# Altium schematic symbol library wr_switch.SCHLIB: 234 symbols (part 2 of 4)
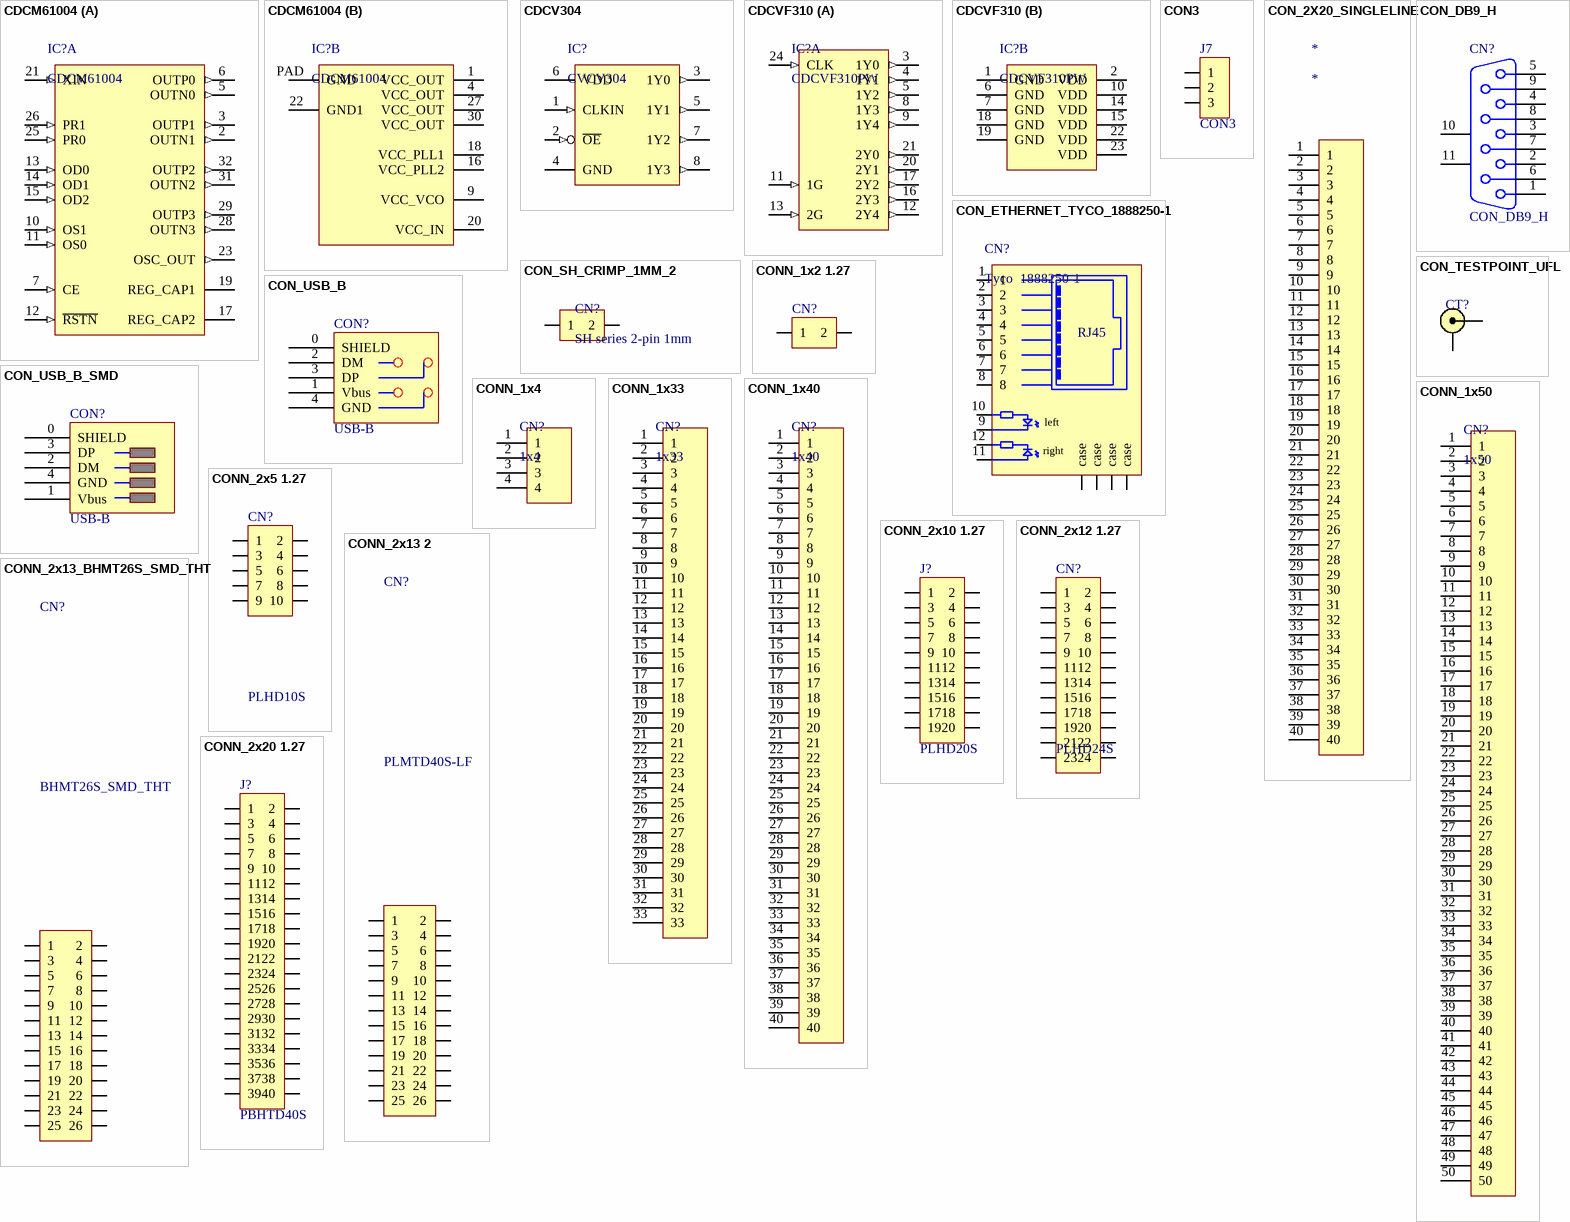
[diagram p27: symbols CDCM61004 to CONN_2x20 1.27]

## CONN_1x50
designator CN?, comment 1x50
pins: 1, 2, 3, 4, 5, 6, 7, 8, 9, 10, 11, 12, 13, 14, 15, 16, 17, 18, 19, 20, 21, 22, 23, 24, 25, 26, 27, 28, 29, 30, 31, 32, 33, 34, 35, 36, 37, 38, 39, 40, 41, 42, 43, 44, 45, 46, 47, 48, 49, 50

## CONN_2x5 1.27
designator CN?, comment PLHD10S
1.27 mm dual row goldpin; RefId: PBHTD10SPP; Value: PBHTD10SPP; Supplier: Maritex
footprint PLHTD10S-GC (SMT 1.27 mm dual goldpin)
pins: 1, 2, 3, 4, 5, 6, 7, 8, 9, 10
2 alternate drawings of the same symbol

## CONN_2x10 1.27
designator J?, comment PLHD20S
1.27 mm dual row goldpin; RefId: PBHTD20SPP; Value: PBHTD20SPP; Supplier: Maritex
footprint PLHD20S (1.27mm dual row pin grid)
footprint PLHTD20S-GC (SMT 1.27 mm dual goldpin)
pins: 1, 2, 3, 4, 5, 6, 7, 8, 9, 10, 11, 12, 13, 14, 15, 16, 17, 18, 19, 20
2 alternate drawings of the same symbol

## CONN_2x12 1.27
designator CN?, comment PLHD24S
1.27 mm dual row goldpin; RefId: PBHTD20SPP; Value: PBHTD20SPP; Supplier: Maritex
footprint PLHD20S (1.27mm dual row pin grid)
footprint PLHTD24S-GC (Footprint not found)
pins: 1, 2, 3, 4, 5, 6, 7, 8, 9, 10, 11, 12, 13, 14, 15, 16, 17, 18, 19, 20, 21, 22, 23, 24
2 alternate drawings of the same symbol

## CONN_2x13 2
designator CN?, comment PLMTD40S-LF
1.27 mm dual row goldpin; Supplier: Maritex; RefId: PLMTD40S-LF; Value: PLMTD40S-LF
footprint PLHD20S (1.27mm dual row pin grid)
footprint CONN_HDR_SMD_2mm_2x13
pins: 1, 2, 3, 4, 5, 6, 7, 8, 9, 10, 11, 12, 13, 14, 15, 16, 17, 18, 19, 20, 21, 22, 23, 24, 25, 26
2 alternate drawings of the same symbol

## CONN_2x13_BHMT26S_SMD_THT
designator CN?, comment BHMT26S_SMD_THT
1.27 mm dual row goldpin; RefId: PLMTD40S-LF; Value: PLMTD40S-LF; Supplier: Maritex
footprint PLHD20S (1.27mm dual row pin grid)
footprint CONN_HDR_2mm_2x13 - SMD_THT
pins: 1, 1a 1, 2, 2a 2, 3, 3a 3, 4, 4a 4, 5, 5a 5, 6, 6a 6, 7, 7a 7, 8, 8a 8, 9, 9a 9, 10, 10a 10, 11, 11a 11, 12, 12a 12, 13, 13a 13, 14, 14a 14, 15, 15a 15, 16, 16a 16, 17, 17a 17, 18, 18a 18, 19, 19a 19, 20, 20a 20, 21, 21a 21, 22, 22a 22, 23, 23a 23, 24, 24a 24, 25, 25a 25, 26, 26a 26
2 alternate drawings of the same symbol

## CONN_2x20 1.27
designator J?, comment PBHTD40S
1.27 mm dual row goldpin (Maritex)
footprint PLHD40S (1.27mm dual row pin grid)
footprint PLHTD40S (SMT 1.27 mm dual goldpin)
pins: 1, 2, 3, 4, 5, 6, 7, 8, 9, 10, 11, 12, 13, 14, 15, 16, 17, 18, 19, 20, 21, 22, 23, 24, 25, 26, 27, 28, 29, 30, 31, 32, 33, 34, 35, 36, 37, 38, 39, 40
2 alternate drawings of the same symbol

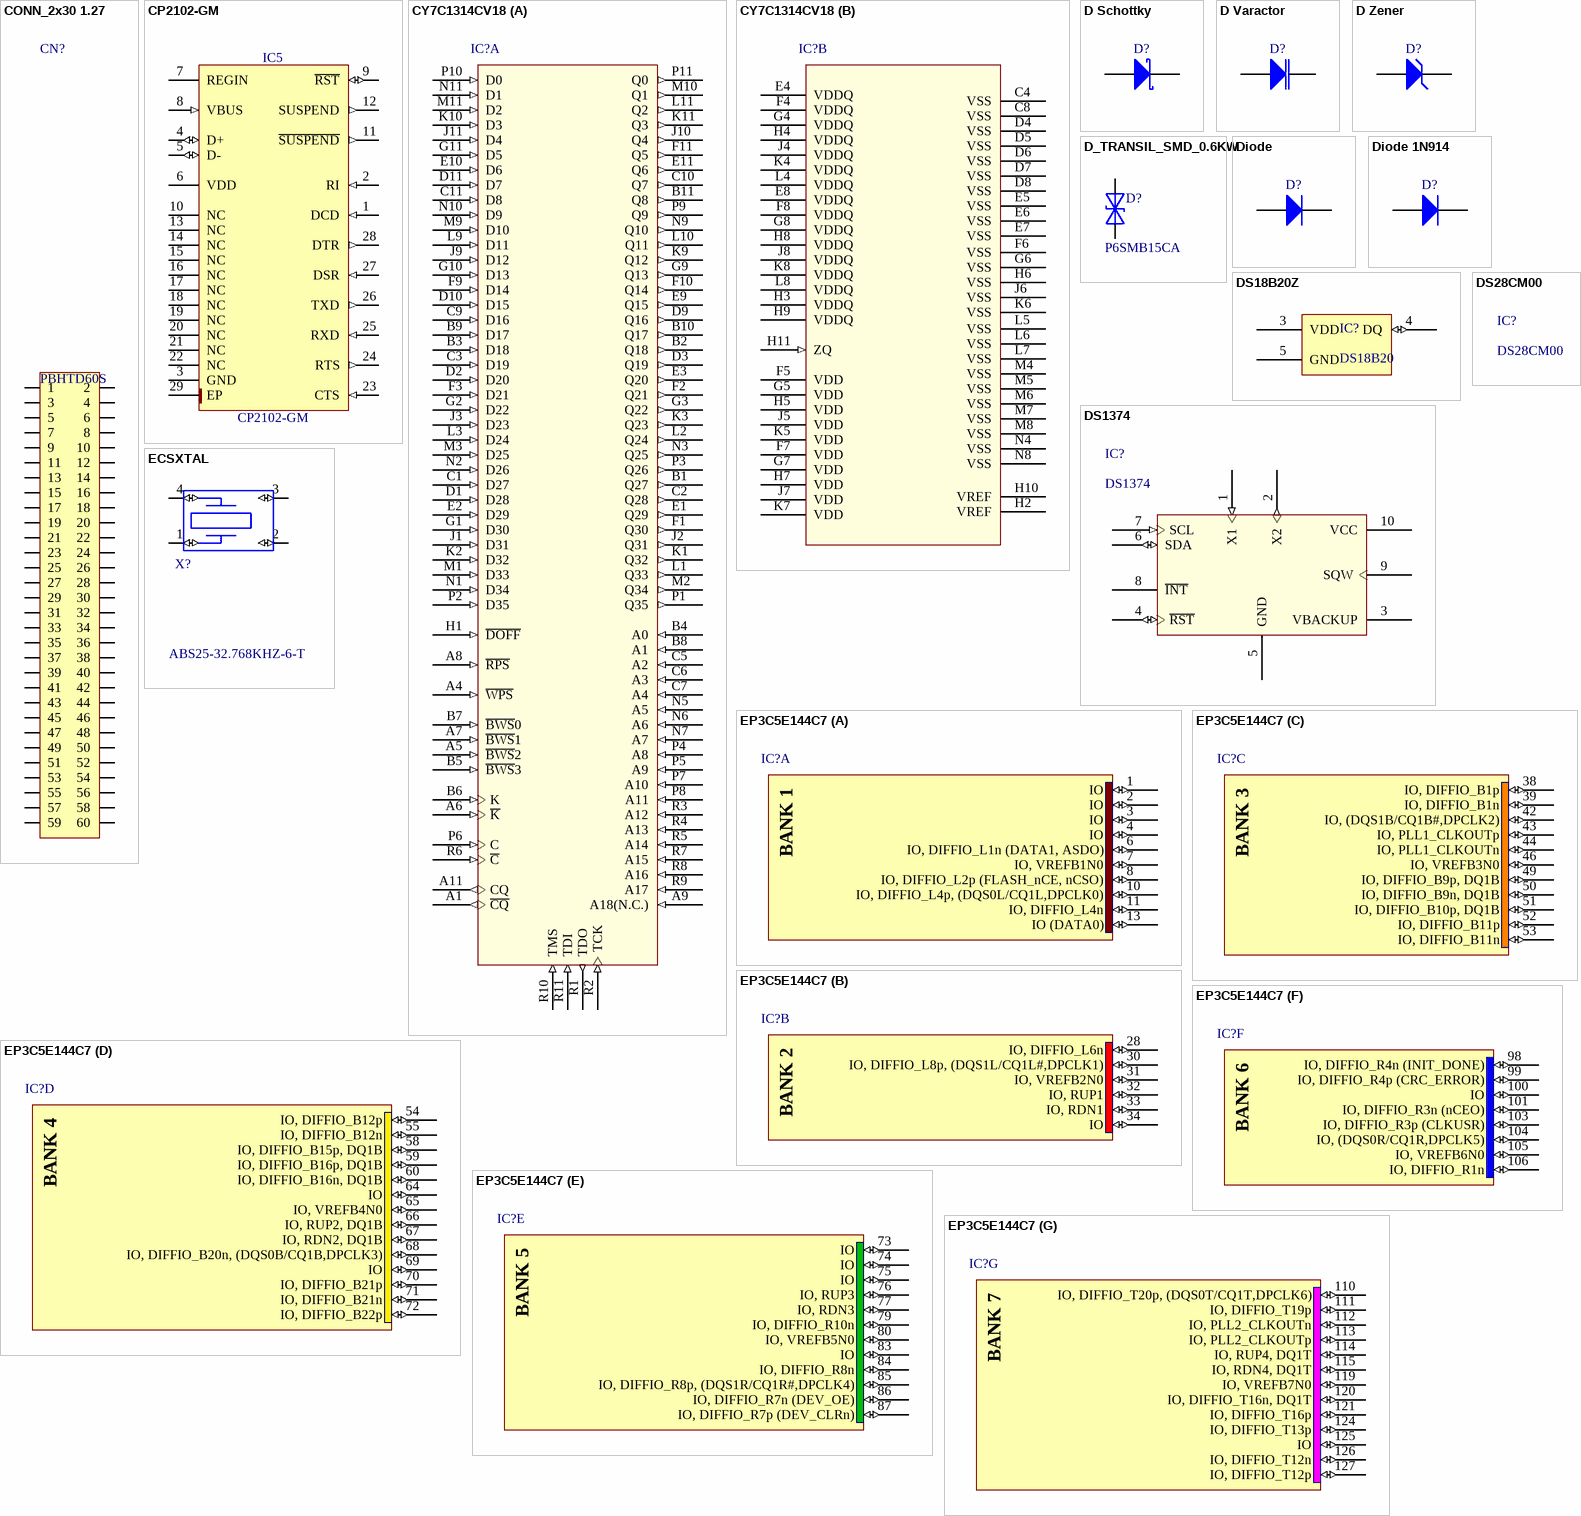
[diagram p7: symbols CONN_2x30 1.27 to EP3C5E144C7]

## CONN_2x30 1.27
designator CN?, comment PBHTD60S
1.27 mm dual row goldpin (Maritex)
footprint PLHD40S (1.27mm dual row pin grid)
footprint PLHTD40S (SMT 1.27 mm dual goldpin)
pins: 1, 2, 3, 4, 5, 6, 7, 8, 9, 10, 11, 12, 13, 14, 15, 16, 17, 18, 19, 20, 21, 22, 23, 24, 25, 26, 27, 28, 29, 30, 31, 32, 33, 34, 35, 36, 37, 38, 39, 40, 41, 42, 43, 44, 45, 46, 47, 48, 49, 50, 51, 52, 53, 54, 55, 56, 57, 58, 59, 60
2 alternate drawings of the same symbol

## CP2102-GM
designator IC5
Single-Chip USB to UART Bridge; Manufacturer: SILICON LABS; Table: Analog & Interface; Part Number: CP2102-GM; Component Kind: Standard; Component Type: Standard; Device: CP2102-GM; Footprint: QFN50P500X500X100-29N-S335; PackageDescription: QFN, 0.50mm Pitch, Square; 28 pin, 5.00mm L X 5.00mm W X 1.00mm H body (w/thermal tab 3.35 X 3.35mm),  IPC Medium Density; Part Description: Single-Chip USB to UART Bridge; Manufacturer Part Number: CP2102-GM; Pin Count: 29; Case: QFN28; Mounted: Yes; Socket: No; SMD: Yes; ComponentHeight: 1.0mm; Author: CERN DEM JLC; HelpURL: \\cern.ch\dfs\Applications\Altium\Datasheets\CP2102-GM.pdf; CreateDate: 3/3/2011; LatestRevisionDate: 3/3/2011
footprint QFN50P500X500X100-29N-S335
pins: 1 DCD (in), 2 RI (in), 3 GND (power), 4 D+ (io), 5 D- (io), 6 VDD (power), 7 REGIN (power), 8 VBUS (in), 9 ~{RST} (io), 10 NC, 11 ~{SUSPEND} (out), 12 SUSPEND (out), 13 NC, 14 NC, 15 NC, 16 NC, 17 NC, 18 NC, 19 NC, 20 NC, 21 NC, 22 NC, 23 CTS (in), 24 RTS (out), 25 RXD (in), 26 TXD (out), 27 DSR (in), 28 DTR (out), 29 EP (power)

## CY7C1314CV18
designator IC?, comment CY7C1314CV18-250BZC  (value not drawn)
18-Mbit (512Kx36) QDRII SRAM 2-Word Burst Architecture; Value: CY7C1314CV18-250BZC; Distributor1 PN: CY7C1314CV18-250BZC -ND; Distributor1: Digikey
footprint BGA165C100P11X15_1300X1500X140 (BGA, 1.00mm pitch,rect.;165 pin, 11 columns X 15 rows, 13.00mm X 15.00mm X 1.40mm H)
part A pins: A1 ~{CQ} (out), A4 ~{WPS} (in), A5 ~{BWS}2 (in), A6 ~{K} (in), A7 ~{BWS}1 (in), A8 ~{RPS} (in), A9 A18(N.C.) (in), A11 CQ (out), B1 Q27 (out), B2 Q18 (out), B3 D18 (in), B4 A0 (in), B5 ~{BWS}3 (in), B6 K (in), B7 ~{BWS}0 (in), B8 A1 (in), B9 D17 (in), B10 Q17 (out), B11 Q8 (out), C1 D27 (in), C2 Q28 (out), C3 D19 (in), C5 A2 (in), C6 A3 (in), C7 A4 (in), C9 D16 (in), C10 Q7 (out), C11 D8 (in), D1 D28 (in), D2 D20 (in), D3 Q19 (out), D9 Q16 (out), D10 D15 (in), D11 D7 (in), E1 Q29 (out), E2 D29 (in), E3 Q20 (out), E9 Q15 (out), E10 D6 (in), E11 Q6 (out), F1 Q30 (out), F2 Q21 (out), F3 D21 (in), F9 D14 (in), F10 Q14 (out), F11 Q5 (out), G1 D30 (in), G2 D22 (in), G3 Q22 (out), G9 Q13 (out), G10 D13 (in), G11 D5 (in), H1 ~{DOFF} (in), J1 D31 (in), J2 Q31 (out), J3 D23 (in), J9 D12 (in), J10 Q4 (out), J11 D4 (in), K1 Q32 (out), K2 D32 (in), K3 Q23 (out), K9 Q12 (out), K10 D3 (in), K11 Q3 (out), L1 Q33 (out), L2 Q24 (out), L3 D24 (in), L9 D11 (in), L10 Q11 (out), L11 Q2 (out), M1 D33 (in), M2 Q34 (out), M3 D25 (in), M9 D10 (in), M10 Q1 (out), M11 D2 (in), N1 D34 (in), N2 D26 (in), N3 Q25 (out), N5 A5 (in), N6 A6 (in), N7 A7 (in), N9 Q10 (out), N10 D9 (in), N11 D1 (in), P1 Q35 (out), P2 D35 (in), P3 Q26 (out), P4 A8 (in), P5 A9 (in), P6 C (in), P7 A10 (in), P8 A11 (in), P9 Q9 (out), P10 D0 (in), P11 Q0 (out), R1 TDO (out), R2 TCK (in), R3 A12 (in), R4 A13 (in), R5 A14 (in), R6 ~{C} (in), R7 A15 (in), R8 A16 (in), R9 A17 (in), R10 TMS (in), R11 TDI (in)
part B pins: C4 VSS (power), C8 VSS (power), D4 VSS (power), D5 VSS (power), D6 VSS (power), D7 VSS (power), D8 VSS (power), E4 VDDQ (power), E5 VSS (power), E6 VSS (power), E7 VSS (power), E8 VDDQ (power), F4 VDDQ (power), F5 VDD (power), F6 VSS (power), F7 VDD (power), F8 VDDQ (power), G4 VDDQ (power), G5 VDD (power), G6 VSS (power), G7 VDD (power), G8 VDDQ (power), H2 VREF (power), H3 VDDQ (power), H4 VDDQ (power), H5 VDD (power), H6 VSS (power), H7 VDD (power), H8 VDDQ (power), H9 VDDQ (power), H10 VREF (power), H11 ZQ (in), J4 VDDQ (power), J5 VDD (power), J6 VSS (power), J7 VDD (power), J8 VDDQ (power), K4 VDDQ (power), K5 VDD (power), K6 VSS (power), K7 VDD (power), K8 VDDQ (power), L4 VDDQ (power), L5 VSS (power), L6 VSS (power), L7 VSS (power), L8 VDDQ (power), M4 VSS (power), M5 VSS (power), M6 VSS (power), M7 VSS (power), M8 VSS (power), N4 VSS (power), N8 VSS (power)

## D Schottky
designator D?
Schottky Diode; Published: 8-Jun-2000; LatestRevisionDate: 17-Jul-2002; LatestRevisionNote: Re-released for DXP Platform.; PackageReference: SMB; Publisher: Altium Limited; Code_JEDEC: DO-214-AA
footprint SMB (DO-214-AA/SMB; 2 C-Bend Leads; Body 5.3 x 3.6 mm, inc. leads (LxW))
simulation model SKYDIODE (Diode)
signal-integrity model D Schottky
pins: 1 A, 2 K

## D Varactor
designator D?
Variable Capacitance Diode; Note: Pin 2 is not connected and not drawn.; Published: 8-Jun-2000; LatestRevisionDate: 17-Jul-2002; LatestRevisionNote: Re-released for DXP Platform.; DatasheetDocument: Jan-1998; PackageReference: SOT23A; Publisher: Altium Limited; Code_JEDEC: SOT23; ComponentLink1Description: Manufacturer Link; ComponentLink1URL: http://www.zetex.com/
footprint SOT23A (SOT-23; 3 Leads; Body 3.0 x 2.5 mm, inc. leads (LxW max))
simulation model BBY31 (Diode)
signal-integrity model D Varactor
pins: 1 K, 3 A

## D Zener
designator D?
Zener Diode; Published: 8-Jun-2000; LatestRevisionDate: 17-Jul-2002; LatestRevisionNote: Re-released for DXP Platform.; PackageReference: DIODE-0.7; Publisher: Altium Limited
footprint DIODE-0.7 (Zener Diode; 2 Leads)
simulation model ZENER (Diode)
signal-integrity model D Zener
pins: 1 A, 2 K

## D_TRANSIL_SMD_0.6KW
designator D?, comment P6SMB15CA
transil 600W; RefId: 1390860; Supplier: Farnell; Value: P6SMB15CA
footprint DO-214AA/SMB (diode (Maritex))
pins: A, K

## Diode
designator D?
Default Diode; Published: 8-Jun-2000; LatestRevisionDate: 17-Jul-2002; LatestRevisionNote: Re-released for DXP Platform.; PackageDocument: Sep-1996; PackageReference: SMC; Publisher: Altium Limited; Code_JEDEC: DO-214-AB
footprint SMC (DO-214-AB/SMC; 2 C-Bend Leads; Body 7.9 x 5.9 mm, inc. leads (LxW))
simulation model DIODE (Diode)
signal-integrity model Diode
pins: 1 A, 2 K

## Diode 1N914
designator D?
High Conductance Fast Diode; Published: 8-Jun-2000; LatestRevisionDate: 17-Jul-2002; LatestRevisionNote: Re-released for DXP Platform.; DatasheetDocument: 1997; PackageReference: DO-35; Publisher: Altium Limited; Code_JEDEC: DO-204-AH; ComponentLink1Description: Manufacturer Link; ComponentLink1URL: http://www.fairchildsemi.com/; ComponentLink2Description: Datasheet; ComponentLink2URL: http://www.fairchildsemi.com/ds/1N%2F1N4448.pdf
footprint DO-35 (Diode, Axial; Body 3.8 x 1.9 mm (LxDia. max), Lead Dia. 0.53 mm (max))
simulation model 1N914 (DIODE)
signal-integrity model 1N914
pins: 1 A, 2 K

## DS18B20Z
designator IC?, comment DS18B20
1-wire thermometer/ID chip; Value: DS18B20Z; RefId: 1379772; Supplier: Farnell
footprint SOIC127P600-8AL (SOIC, 8-Leads, Body 4.9x3.9mm, Pitch 1.27mm, IPC High Density)
pins: 3 VDD (power), 4 DQ (io), 5 GND (power)

## DS28CM00
designator IC?

## DS1374
designator IC?
I2C, 32 BIT BINARY COUNTER WATCHDOG RTC
footprint UMAX10
pins: 1 X1 (in), 2 X2 (out), 3 VBACKUP (power), 4 ~{RST} (io), 5 GND (power), 6 SDA (io), 7 SCL (in), 8 ~{INT} (oc), 9 SQW (oc), 10 VCC (power)

## ECSXTAL
designator X?, comment ABS25-32.768KHZ-6-T
Crystal 32.768 Hz 6,0pF SMD; MANF: Abracon Corporation; LEVEL: STD; PKG_TYPE: SOJ-4; MANF_PN: ABS25-32.768KHZ-6-T; VALUE: ABS25-32.768KHZ-6-T; Distributor1: Digikey; Distributor1: 535-10240-1-ND
footprint ABS25 (32.768 kHzFREQUENCY SMD CRYSTAL LOW PROFILE, HEAT RESISTANT PLASTIC PACKAGE)
pins: 1 P1 (io), 2 P2 (io), 3 P3 (io), 4 P4 (io)

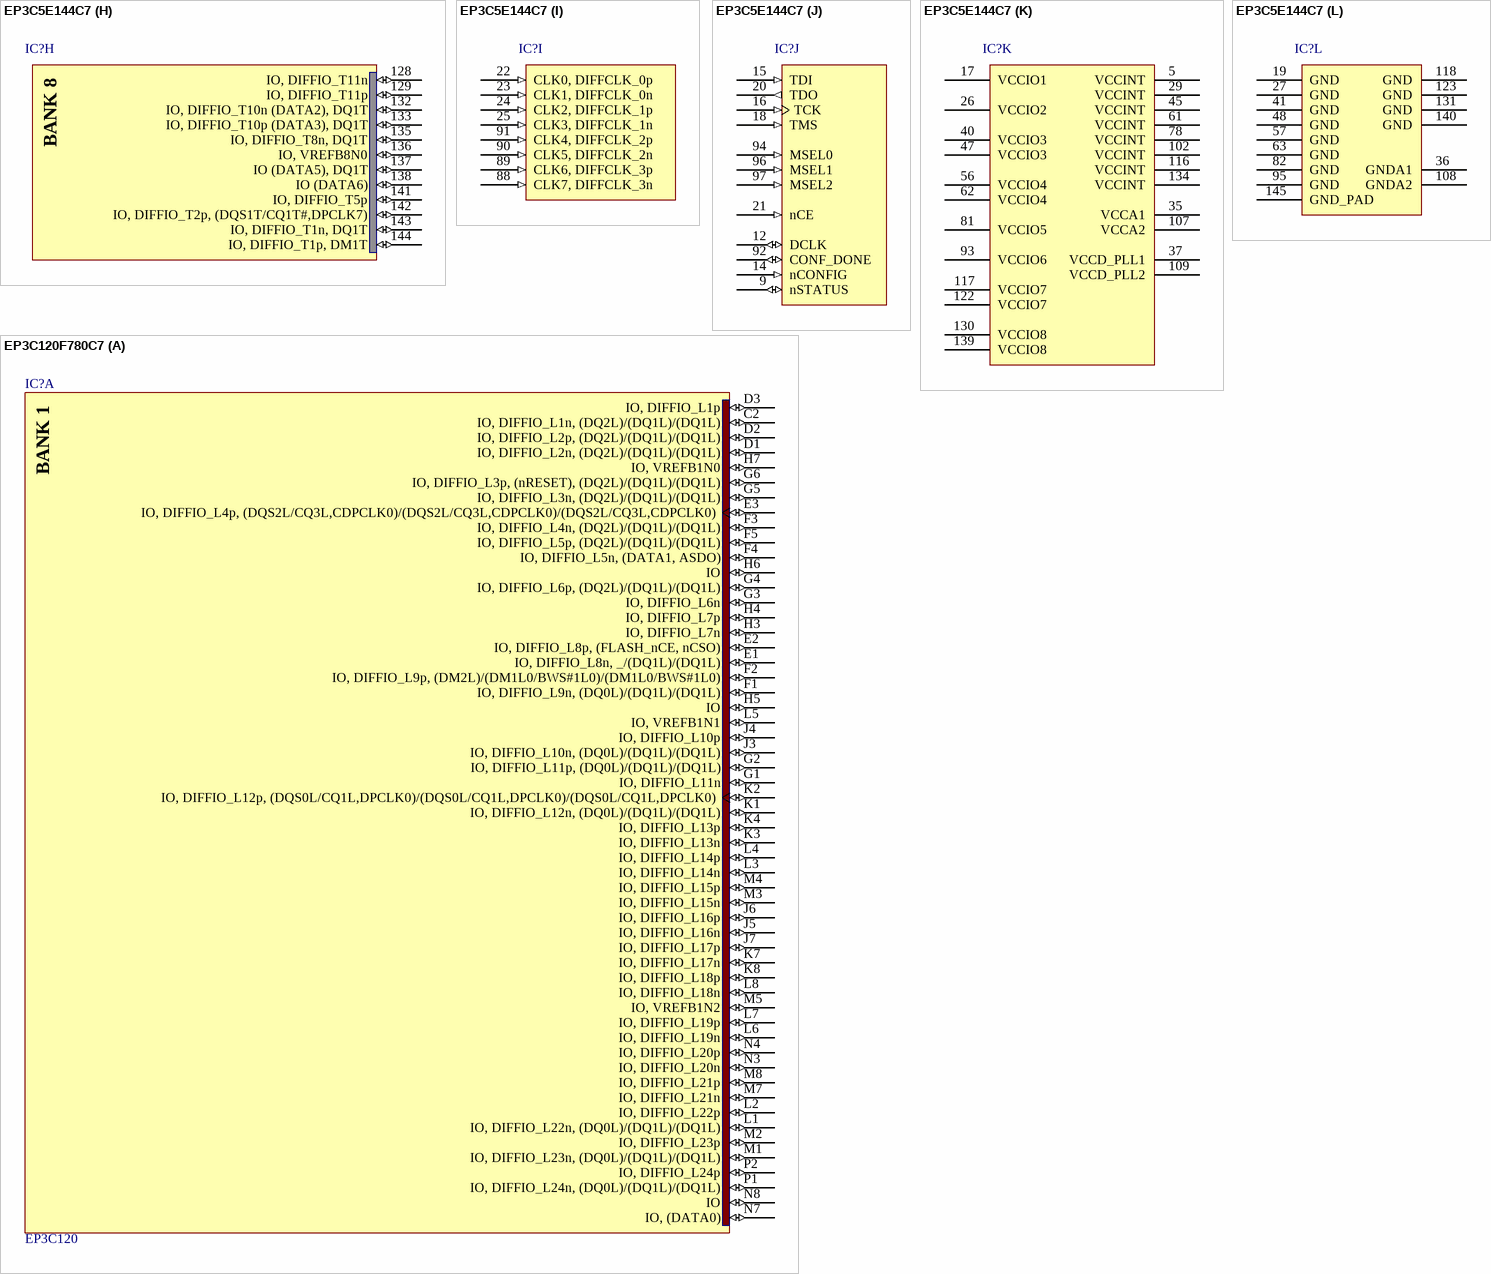
[diagram p8: symbols EP3C5E144C7 to EP3C120F780C7]

## EP3C5E144C7
designator IC?  (value not drawn)
Cyclone III Family FPGA, 94 I/O Pins, 4 PLLs, 144-Pin EQFP, Speed Grade 7, Commercial Grade; Note: Exposed pad at the bottom of this package must be connected to PCB GND.; RefId: 1635055; Published: 14-Mar-2008; DatasheetVersion: ver1.2, Sep-2007; PackageVersion: ver14.8, Oct-2007; PackageReference: EQFP144; Publisher: Altium Limited; PackageDescription: 144-Pin Plastic Enhanced Quad Flat Pack (EQFP144) - Wire Bond; Code_JEDEC: MS-026-BFB; ComponentLink1Description: Manufacturer Link; ComponentLink1URL: http://www.altera.com/; ComponentLink2Description: Handbook (7.86MB); ComponentLink2URL: http://www.altera.com/literature/hb/cyc3/cyclone3_handbook.pdf; ComponentLink3Description: Packaging Specification; ComponentLink3URL: http://www.altera.com/literature/ds/dspkg.pdf; Supplier: Farnell; Value: EP3C5E144C7
footprint EQFP144_N (Thin QFP, 144-Leads, Body 20x20mm, Pitch 0.5mm, IPC Medium Density)
footprint EQFP144_L (Thin QFP, 144-Leads, Body 20x20mm, Pitch 0.5mm, IPC High Density)
footprint EQFP144_M (Thin QFP, 144-Leads, Body 20x20mm, Pitch 0.5mm, IPC Low Density)
3D model EP3C5-EQFP144 (144-Pin Plastic Enhanced Quad Flat Pack (EQFP144) - Wire Bond)
signal-integrity model EP3C5_E144 (Cyclone III)
part A pins: 1 IO (io), 2 IO (io), 3 IO (io), 4 IO (io), 6 IO, DIFFIO_L1n (DATA1, ASDO) (io), 7 IO, VREFB1N0 (io), 8 IO, DIFFIO_L2p (FLASH_nCE, nCSO) (io), 10 IO, DIFFIO_L4p, (DQS0L/CQ1L,DPCLK0) (io), 11 IO, DIFFIO_L4n (io), 13 IO (DATA0) (io)
part B pins: 28 IO, DIFFIO_L6n (io), 30 IO, DIFFIO_L8p, (DQS1L/CQ1L#,DPCLK1) (io), 31 IO, VREFB2N0 (io), 32 IO, RUP1 (io), 33 IO, RDN1 (io), 34 IO (io)
part C pins: 38 IO, DIFFIO_B1p (io), 39 IO, DIFFIO_B1n (io), 42 IO, (DQS1B/CQ1B#,DPCLK2) (io), 43 IO, PLL1_CLKOUTp (io), 44 IO, PLL1_CLKOUTn (io), 46 IO, VREFB3N0 (io), 49 IO, DIFFIO_B9p, DQ1B (io), 50 IO, DIFFIO_B9n, DQ1B (io), 51 IO, DIFFIO_B10p, DQ1B (io), 52 IO, DIFFIO_B11p (io), 53 IO, DIFFIO_B11n (io)
part D pins: 54 IO, DIFFIO_B12p (io), 55 IO, DIFFIO_B12n (io), 58 IO, DIFFIO_B15p, DQ1B (io), 59 IO, DIFFIO_B16p, DQ1B (io), 60 IO, DIFFIO_B16n, DQ1B (io), 64 IO (io), 65 IO, VREFB4N0 (io), 66 IO, RUP2, DQ1B (io), 67 IO, RDN2, DQ1B (io), 68 IO, DIFFIO_B20n, (DQS0B/CQ1B,DPCLK3) (io), 69 IO (io), 70 IO, DIFFIO_B21p (io), 71 IO, DIFFIO_B21n (io), 72 IO, DIFFIO_B22p (io)
part E pins: 73 IO (io), 74 IO (io), 75 IO (io), 76 IO, RUP3 (io), 77 IO, RDN3 (io), 79 IO, DIFFIO_R10n (io), 80 IO, VREFB5N0 (io), 83 IO (io), 84 IO, DIFFIO_R8n (io), 85 IO, DIFFIO_R8p, (DQS1R/CQ1R#,DPCLK4) (io), 86 IO, DIFFIO_R7n (DEV_OE) (io), 87 IO, DIFFIO_R7p (DEV_CLRn) (io)
part F pins: 98 IO, DIFFIO_R4n (INIT_DONE) (io), 99 IO, DIFFIO_R4p (CRC_ERROR) (io), 100 IO (io), 101 IO, DIFFIO_R3n (nCEO) (io), 103 IO, DIFFIO_R3p (CLKUSR) (io), 104 IO, (DQS0R/CQ1R,DPCLK5) (io), 105 IO, VREFB6N0 (io), 106 IO, DIFFIO_R1n (io)
part G pins: 110 IO, DIFFIO_T20p, (DQS0T/CQ1T,DPCLK6) (io), 111 IO, DIFFIO_T19p (io), 112 IO, PLL2_CLKOUTn (io), 113 IO, PLL2_CLKOUTp (io), 114 IO, RUP4, DQ1T (io), 115 IO, RDN4, DQ1T (io), 119 IO, VREFB7N0 (io), 120 IO, DIFFIO_T16n, DQ1T (io), 121 IO, DIFFIO_T16p (io), 124 IO, DIFFIO_T13p (io), 125 IO (io), 126 IO, DIFFIO_T12n (io), 127 IO, DIFFIO_T12p (io)
part H pins: 128 IO, DIFFIO_T11n (io), 129 IO, DIFFIO_T11p (io), 132 IO, DIFFIO_T10n (DATA2), DQ1T (io), 133 IO, DIFFIO_T10p (DATA3), DQ1T (io), 135 IO, DIFFIO_T8n, DQ1T (io), 136 IO, VREFB8N0 (io), 137 IO (DATA5), DQ1T (io), 138 IO (DATA6) (io), 141 IO, DIFFIO_T5p (io), 142 IO, DIFFIO_T2p, (DQS1T/CQ1T#,DPCLK7) (io), 143 IO, DIFFIO_T1n, DQ1T (io), 144 IO, DIFFIO_T1p, DM1T (io)
part I pins: 22 CLK0, DIFFCLK_0p (in), 23 CLK1, DIFFCLK_0n (in), 24 CLK2, DIFFCLK_1p (in), 25 CLK3, DIFFCLK_1n (in), 88 CLK7, DIFFCLK_3n (in), 89 CLK6, DIFFCLK_3p (in), 90 CLK5, DIFFCLK_2n (in), 91 CLK4, DIFFCLK_2p (in)
part J pins: 9 nSTATUS (io), 12 DCLK (io), 14 nCONFIG (in), 15 TDI (in), 16 TCK (in), 18 TMS (in), 20 TDO (out), 21 nCE (in), 92 CONF_DONE (io), 94 MSEL0 (in), 96 MSEL1 (in), 97 MSEL2 (in)
part K pins: 5 VCCINT (power), 17 VCCIO1 (power), 26 VCCIO2 (power), 29 VCCINT (power), 35 VCCA1 (power), 37 VCCD_PLL1 (power), 40 VCCIO3 (power), 45 VCCINT (power), 47 VCCIO3 (power), 56 VCCIO4 (power), 61 VCCINT (power), 62 VCCIO4 (power), 78 VCCINT (power), 81 VCCIO5 (power), 93 VCCIO6 (power), 102 VCCINT (power), 107 VCCA2 (power), 109 VCCD_PLL2 (power), 116 VCCINT (power), 117 VCCIO7 (power), 122 VCCIO7 (power), 130 VCCIO8 (power), 134 VCCINT (power), 139 VCCIO8 (power)
part L pins: 19 GND (power), 27 GND (power), 36 GNDA1 (power), 41 GND (power), 48 GND (power), 57 GND (power), 63 GND (power), 82 GND (power), 95 GND (power), 108 GNDA2 (power), 118 GND (power), 123 GND (power), 131 GND (power), 140 GND (power), 145 GND_PAD (power)
part A text: BANK 1
part B text: BANK 2
part C text: BANK 3
part D text: BANK 4
part E text: BANK 5
part F text: BANK 6
part G text: BANK 7
part H text: BANK 8

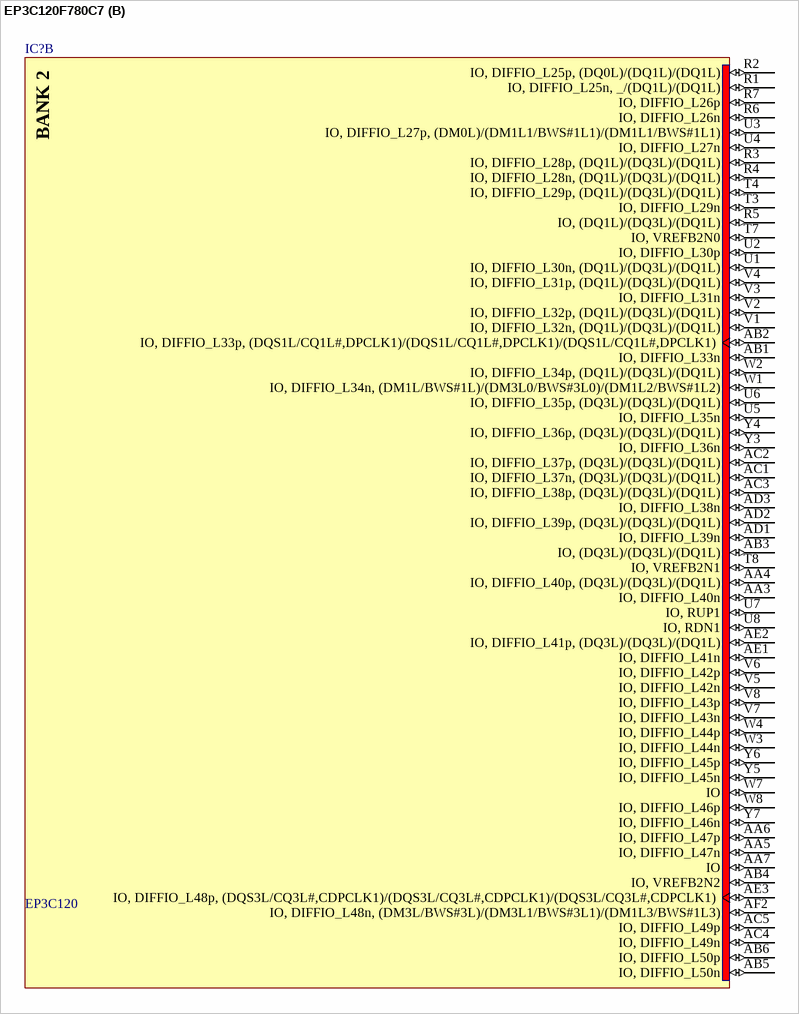
[diagram p9: symbol EP3C120F780C7]

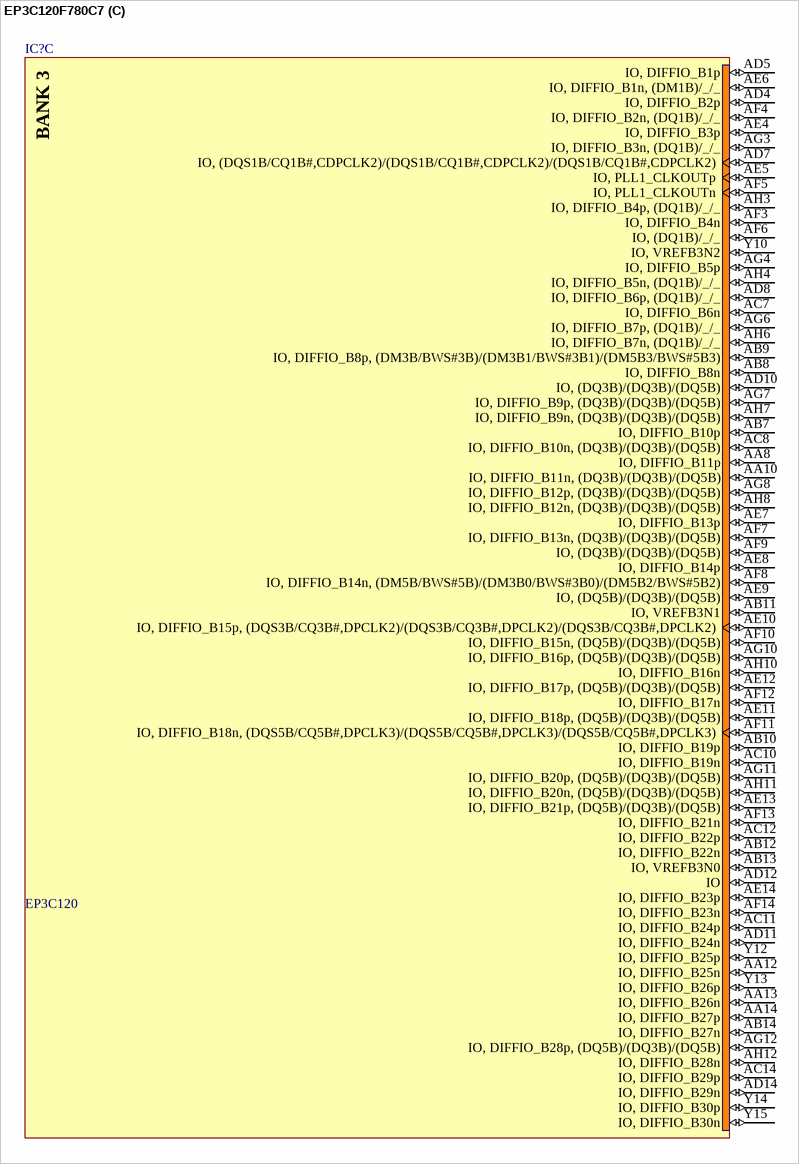
[diagram p10: symbol EP3C120F780C7]

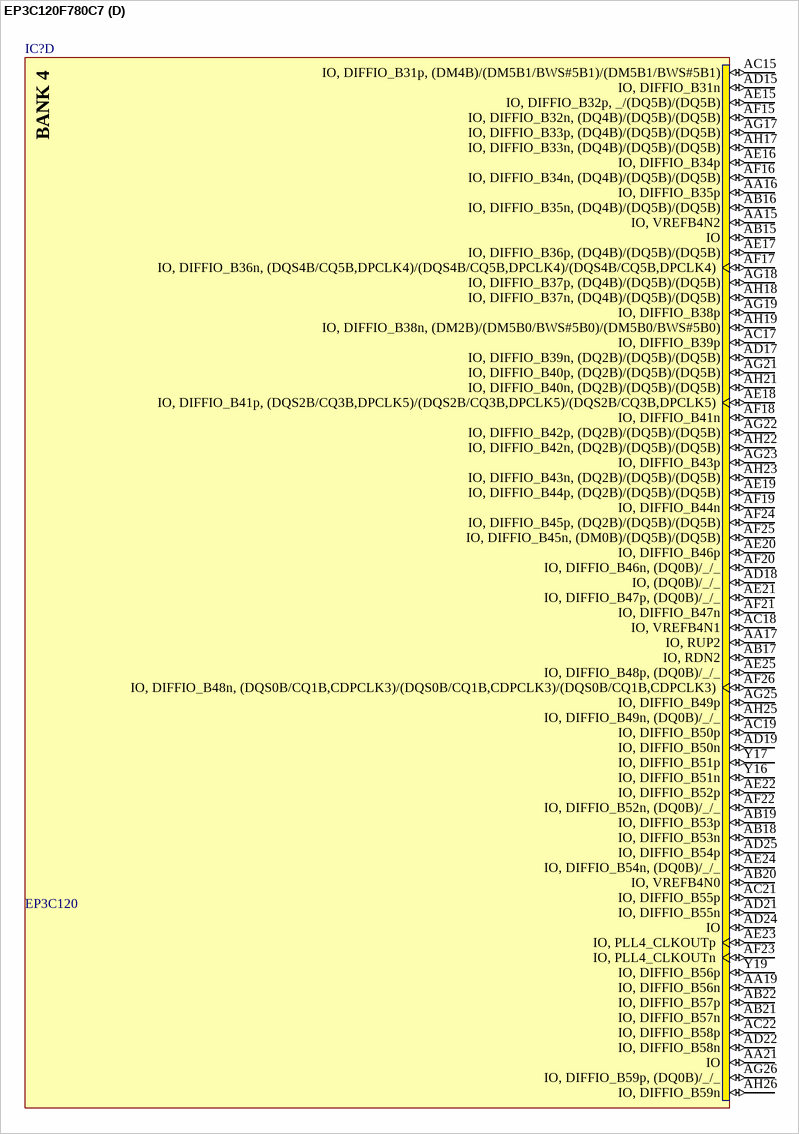
[diagram p11: symbol EP3C120F780C7]

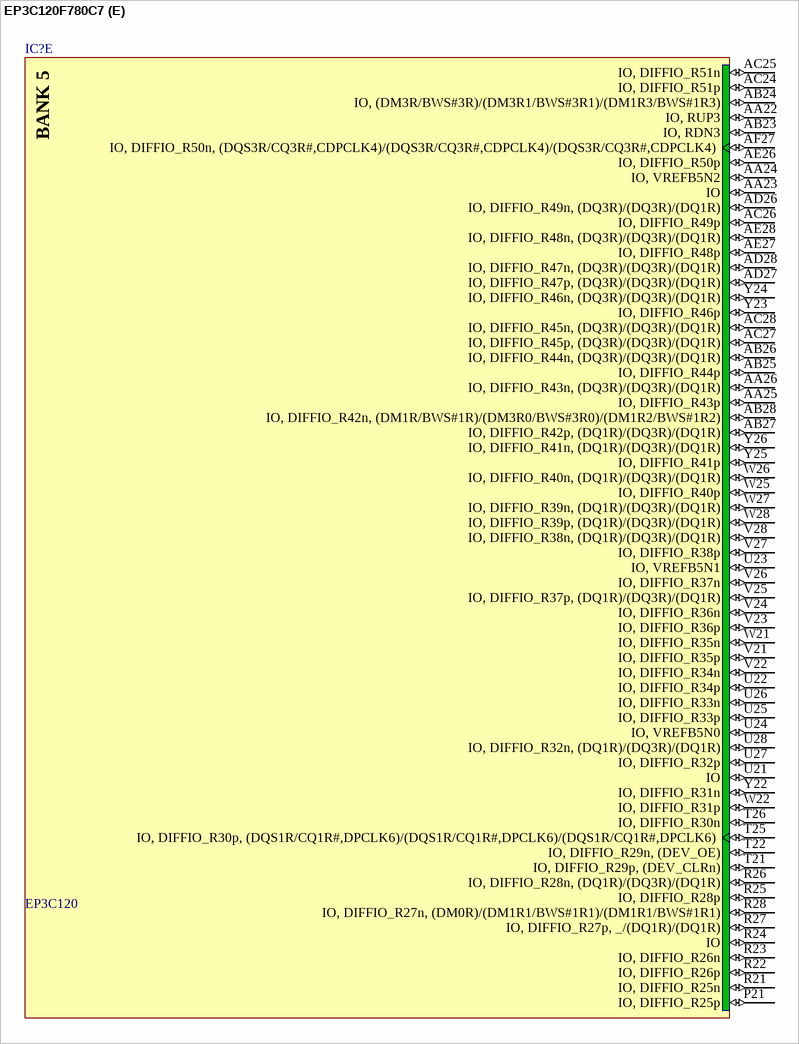
[diagram p12: symbol EP3C120F780C7]

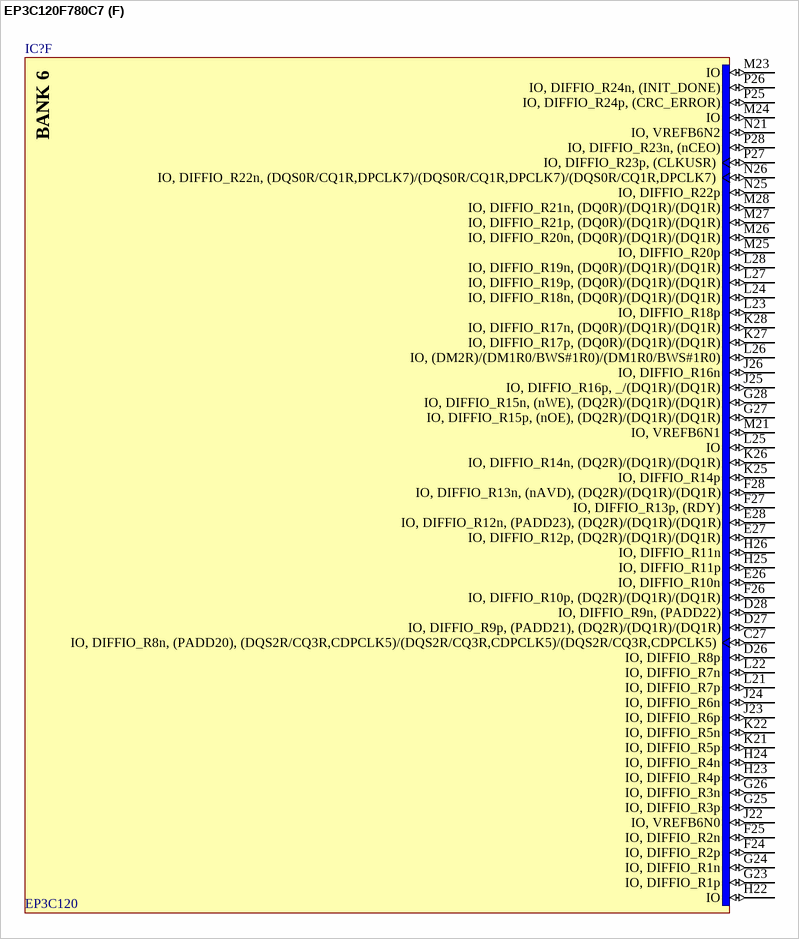
[diagram p13: symbol EP3C120F780C7]

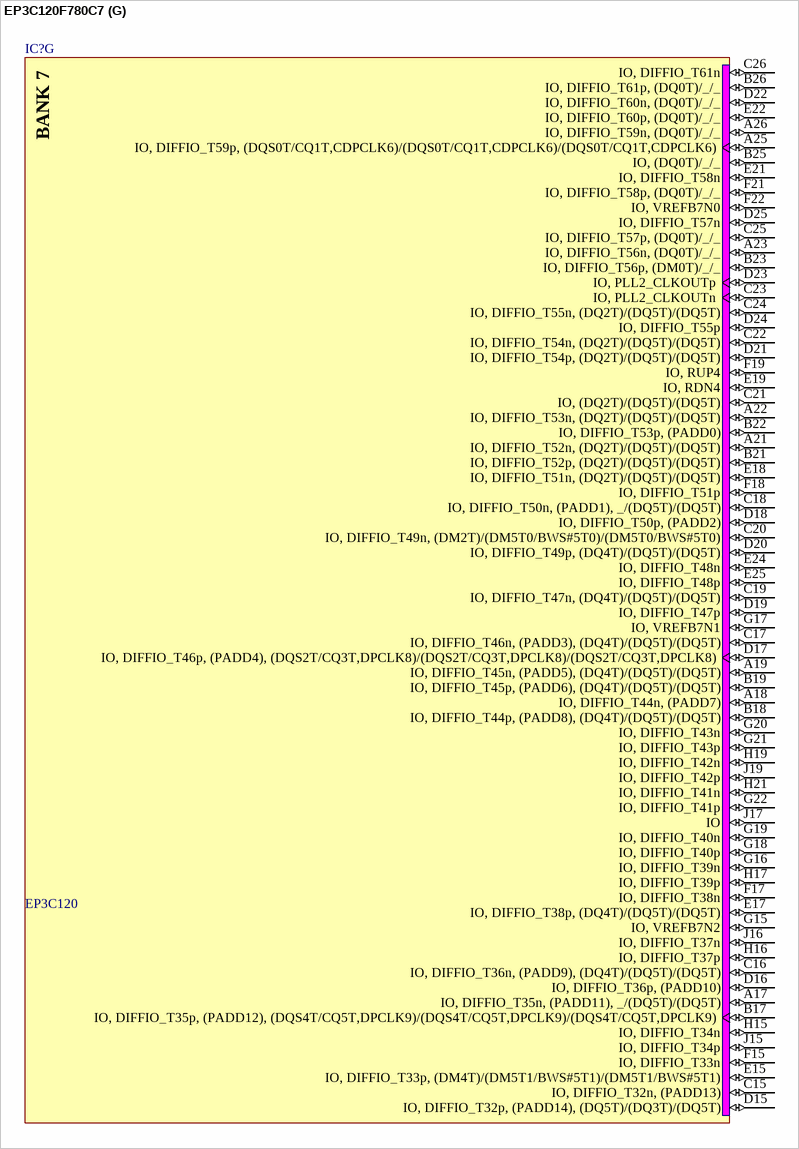
[diagram p14: symbol EP3C120F780C7]

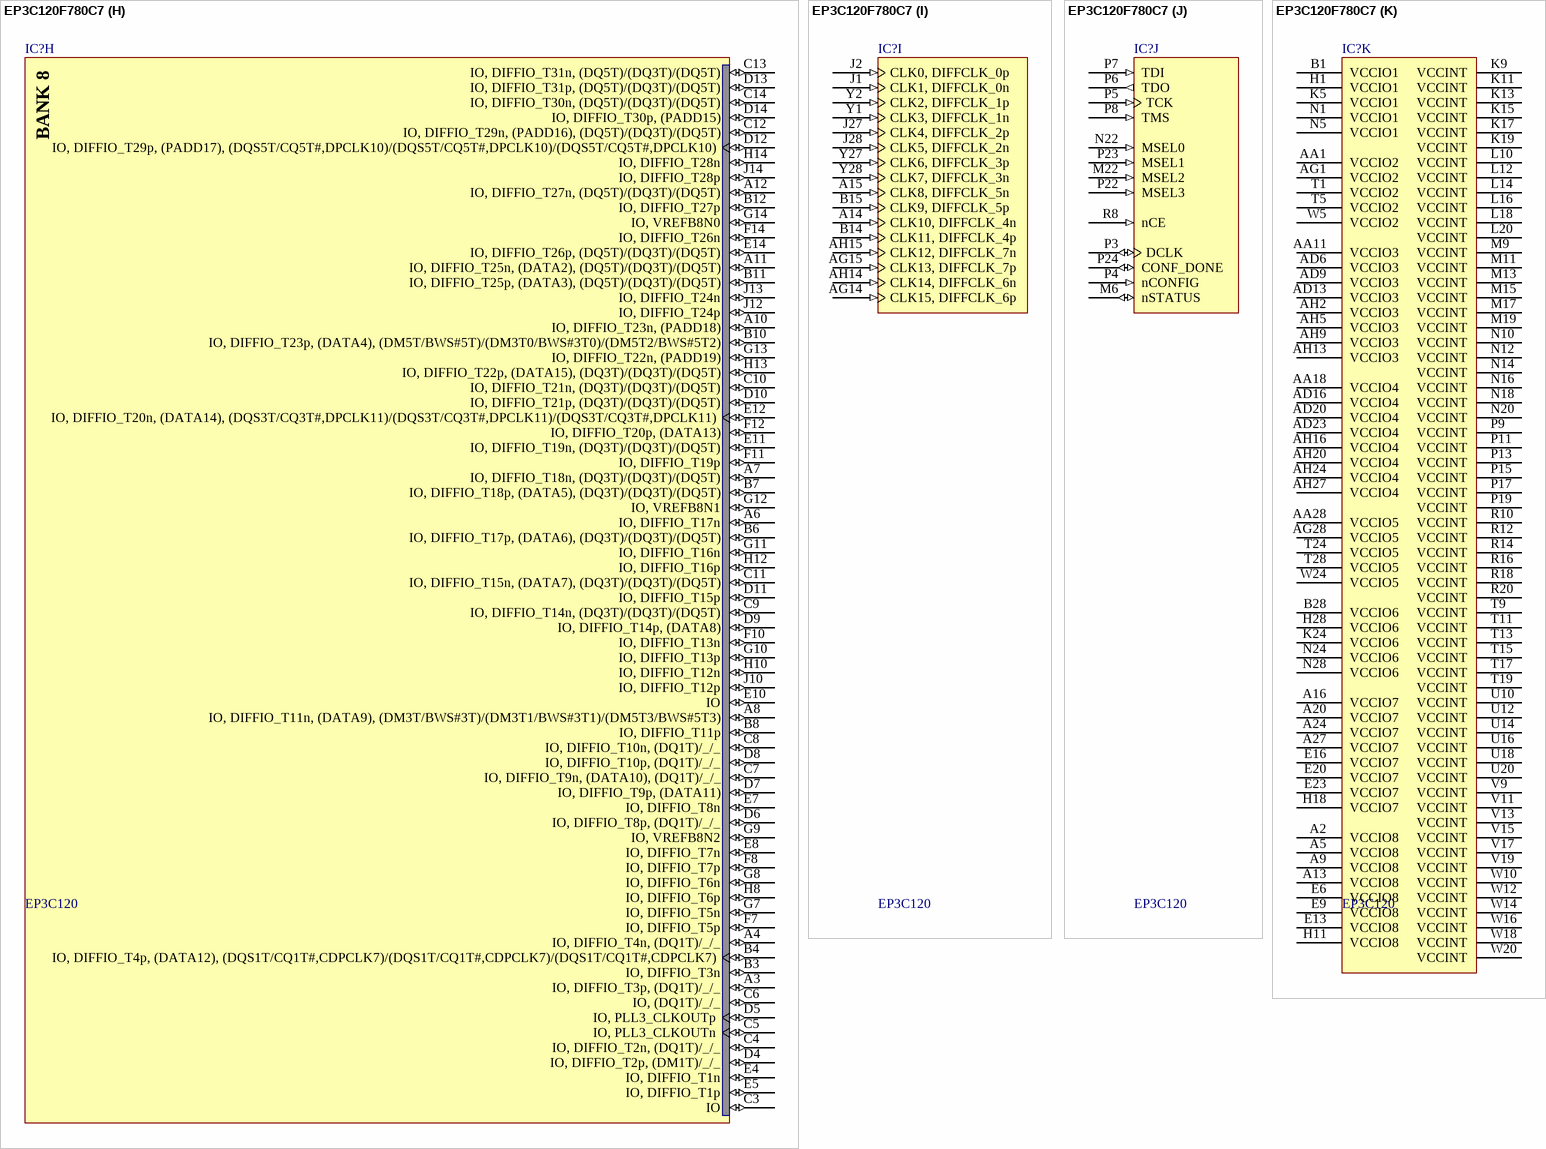
[diagram p15: symbol EP3C120F780C7]

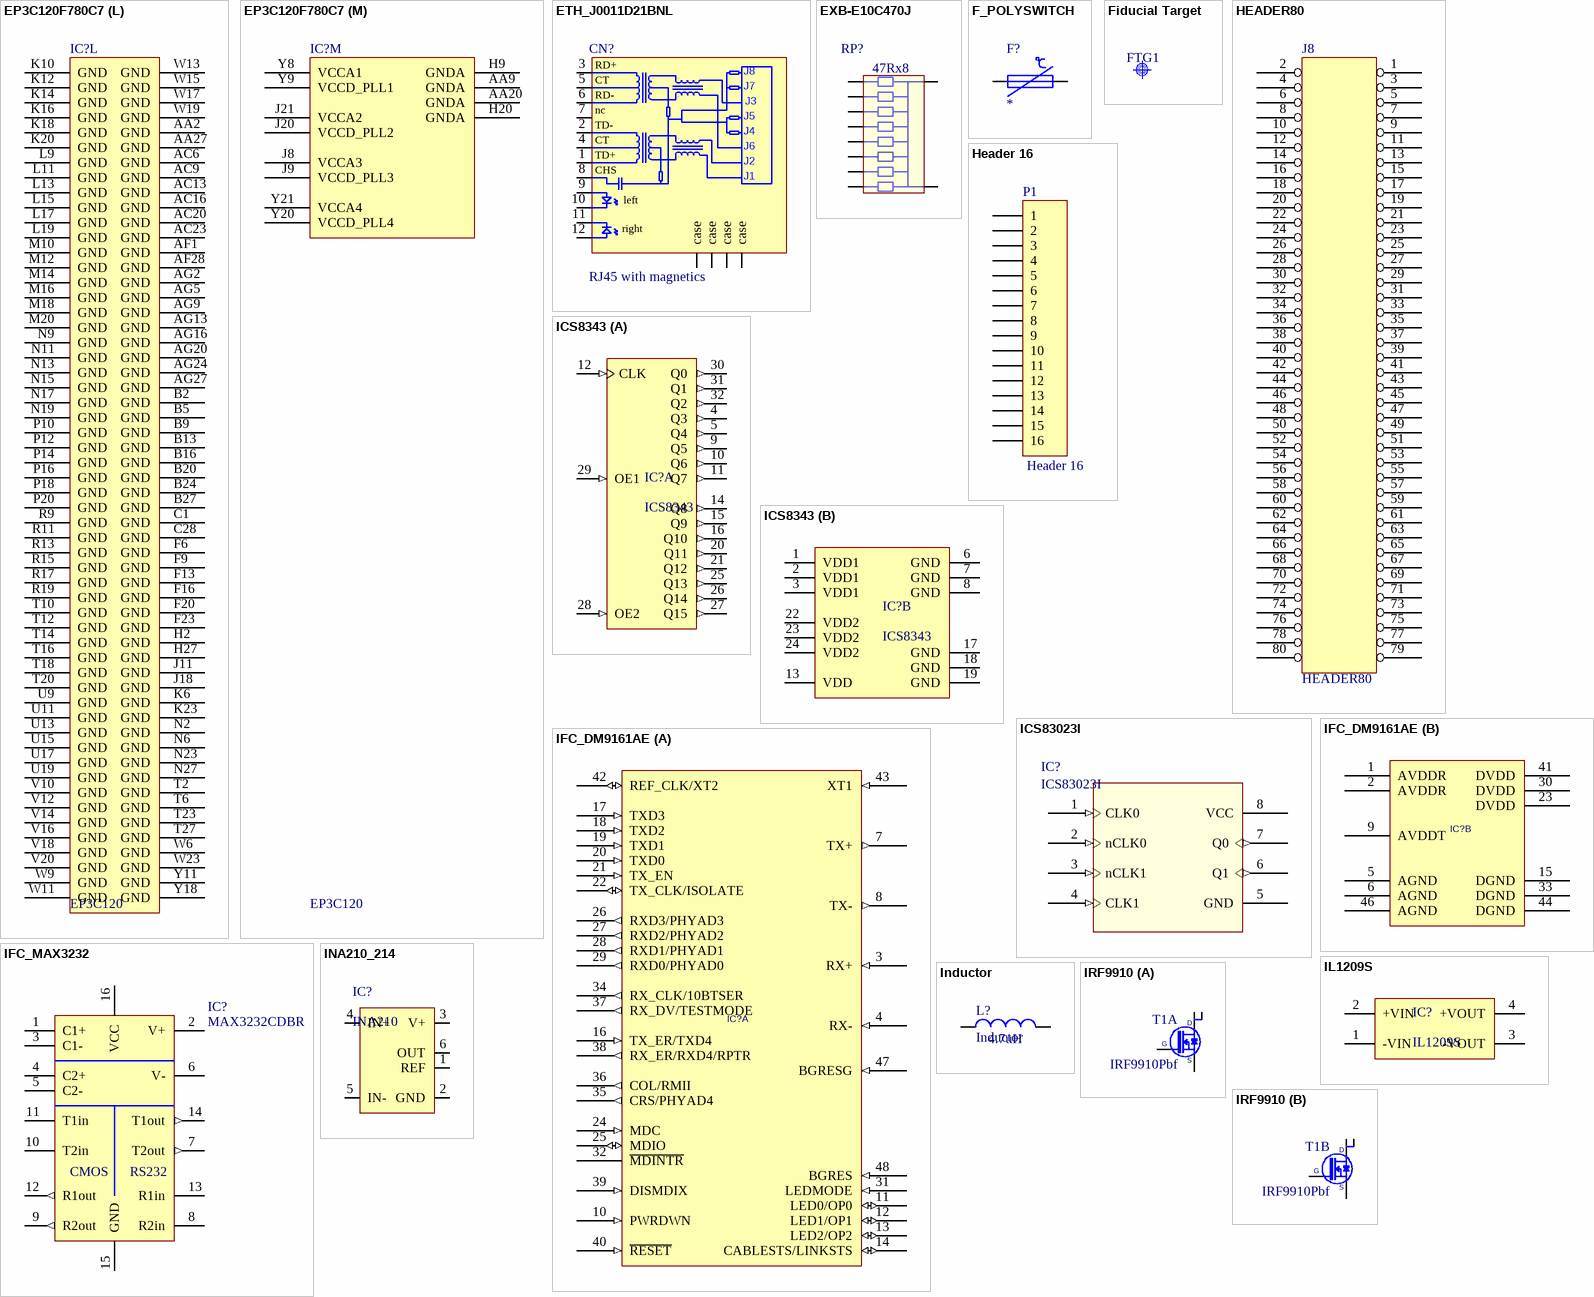
[diagram p16: symbols EP3C120F780C7 to IRF9910]

## EP3C120F780C7
designator IC?, comment EP3C120
Cyclone III Family FPGA, 531 I/O Pins, 4 PLLs, 780-Pin FBGA, Speed Grade 7, Commercial Grade; Value: EP3C120F780C8N; RefId: 1635080; Published: 26-Feb-2007; DatasheetVersion: ver1.2, Sep-2007; PackageVersion: ver14.8, Oct-2007; PackageReference: FBGA780-2; Publisher: Altium Limited; PackageDescription: 780-Ball FineLine Ball Grid Array (FBGA780) - Option 2 - Wire Bond; Code_JEDEC: MS-034-AAM-1; ComponentLink1Description: Manufacturer Link; ComponentLink1URL: http://www.altera.com/; ComponentLink2Description: Handbook (7.86MB); ComponentLink2URL: http://www.altera.com/literature/hb/cyc3/cyclone3_handbook.pdf; ComponentLink3Description: Packaging Specification; ComponentLink3URL: http://www.altera.com/literature/ds/dspkg.pdf; Supplier: Farnell
footprint FBGA780-2 (BGA, 780-Leads, Body 29x29mm, Pitch 1mm)
3D model EP3C120-FBGA780-2 (780-Ball FineLine Ball Grid Array (FBGA780) - Option 2 - Wire Bond)
signal-integrity model EP3C120_F780 (Cyclone III)
part A pins: C2 IO, DIFFIO_L1n, (DQ2L)/(DQ1L)/(DQ1L) (io), D1 IO, DIFFIO_L2n, (DQ2L)/(DQ1L)/(DQ1L) (io), D2 IO, DIFFIO_L2p, (DQ2L)/(DQ1L)/(DQ1L) (io), D3 IO, DIFFIO_L1p (io), E1 IO, DIFFIO_L8n, _/(DQ1L)/(DQ1L) (io), E2 IO, DIFFIO_L8p, (FLASH_nCE, nCSO) (io), E3 IO, DIFFIO_L4p, (DQS2L/CQ3L,CDPCLK0)/(DQS2L/CQ3L,CDPCLK0)/(DQS2L/CQ3L,CDPCLK0) (io), F1 IO, DIFFIO_L9n, (DQ0L)/(DQ1L)/(DQ1L) (io), F2 IO, DIFFIO_L9p, (DM2L)/(DM1L0/BWS#1L0)/(DM1L0/BWS#1L0) (io), F3 IO, DIFFIO_L4n, (DQ2L)/(DQ1L)/(DQ1L) (io), F4 IO, DIFFIO_L5n, (DATA1, ASDO) (io), F5 IO, DIFFIO_L5p, (DQ2L)/(DQ1L)/(DQ1L) (io), G1 IO, DIFFIO_L11n (io), G2 IO, DIFFIO_L11p, (DQ0L)/(DQ1L)/(DQ1L) (io), G3 IO, DIFFIO_L6n (io), G4 IO, DIFFIO_L6p, (DQ2L)/(DQ1L)/(DQ1L) (io), G5 IO, DIFFIO_L3n, (DQ2L)/(DQ1L)/(DQ1L) (io), G6 IO, DIFFIO_L3p, (nRESET), (DQ2L)/(DQ1L)/(DQ1L) (io), H3 IO, DIFFIO_L7n (io), H4 IO, DIFFIO_L7p (io), H5 IO (io), H6 IO (io), H7 IO, VREFB1N0 (io), J3 IO, DIFFIO_L10n, (DQ0L)/(DQ1L)/(DQ1L) (io), J4 IO, DIFFIO_L10p (io), J5 IO, DIFFIO_L16n (io), J6 IO, DIFFIO_L16p (io), J7 IO, DIFFIO_L17p (io), K1 IO, DIFFIO_L12n, (DQ0L)/(DQ1L)/(DQ1L) (io), K2 IO, DIFFIO_L12p, (DQS0L/CQ1L,DPCLK0)/(DQS0L/CQ1L,DPCLK0)/(DQS0L/CQ1L,DPCLK0) (io), K3 IO, DIFFIO_L13n (io), K4 IO, DIFFIO_L13p (io), K7 IO, DIFFIO_L17n (io), K8 IO, DIFFIO_L18p (io), L1 IO, DIFFIO_L22n, (DQ0L)/(DQ1L)/(DQ1L) (io), L2 IO, DIFFIO_L22p (io), L3 IO, DIFFIO_L14n (io), L4 IO, DIFFIO_L14p (io), L5 IO, VREFB1N1 (io), L6 IO, DIFFIO_L19n (io), L7 IO, DIFFIO_L19p (io), L8 IO, DIFFIO_L18n (io), M1 IO, DIFFIO_L23n, (DQ0L)/(DQ1L)/(DQ1L) (io), M2 IO, DIFFIO_L23p (io), M3 IO, DIFFIO_L15n (io), M4 IO, DIFFIO_L15p (io), M5 IO, VREFB1N2 (io), M7 IO, DIFFIO_L21n (io), M8 IO, DIFFIO_L21p (io), N3 IO, DIFFIO_L20n (io), N4 IO, DIFFIO_L20p (io), N7 IO, (DATA0) (io), N8 IO (io), P1 IO, DIFFIO_L24n, (DQ0L)/(DQ1L)/(DQ1L) (io), P2 IO, DIFFIO_L24p (io)
part B pins: AA3 IO, DIFFIO_L40n (io), AA4 IO, DIFFIO_L40p, (DQ3L)/(DQ3L)/(DQ1L) (io), AA5 IO, DIFFIO_L47n (io), AA6 IO, DIFFIO_L47p (io), AA7 IO (io), AB1 IO, DIFFIO_L33n (io), AB2 IO, DIFFIO_L33p, (DQS1L/CQ1L#,DPCLK1)/(DQS1L/CQ1L#,DPCLK1)/(DQS1L/CQ1L#,DPCLK1) (io), AB3 IO, (DQ3L)/(DQ3L)/(DQ1L) (io), AB4 IO, VREFB2N2 (io), AB5 IO, DIFFIO_L50n (io), AB6 IO, DIFFIO_L50p (io), AC1 IO, DIFFIO_L37n, (DQ3L)/(DQ3L)/(DQ1L) (io), AC2 IO, DIFFIO_L37p, (DQ3L)/(DQ3L)/(DQ1L) (io), AC3 IO, DIFFIO_L38p, (DQ3L)/(DQ3L)/(DQ1L) (io), AC4 IO, DIFFIO_L49n (io), AC5 IO, DIFFIO_L49p (io), AD1 IO, DIFFIO_L39n (io), AD2 IO, DIFFIO_L39p, (DQ3L)/(DQ3L)/(DQ1L) (io), AD3 IO, DIFFIO_L38n (io), AE1 IO, DIFFIO_L41n (io), AE2 IO, DIFFIO_L41p, (DQ3L)/(DQ3L)/(DQ1L) (io), AE3 IO, DIFFIO_L48p, (DQS3L/CQ3L#,CDPCLK1)/(DQS3L/CQ3L#,CDPCLK1)/(DQS3L/CQ3L#,CDPCLK1) (io), AF2 IO, DIFFIO_L48n, (DM3L/BWS#3L)/(DM3L1/BWS#3L1)/(DM1L3/BWS#1L3) (io), R1 IO, DIFFIO_L25n, _/(DQ1L)/(DQ1L) (io), R2 IO, DIFFIO_L25p, (DQ0L)/(DQ1L)/(DQ1L) (io), R3 IO, DIFFIO_L28p, (DQ1L)/(DQ3L)/(DQ1L) (io), R4 IO, DIFFIO_L28n, (DQ1L)/(DQ3L)/(DQ1L) (io), R5 IO, (DQ1L)/(DQ3L)/(DQ1L) (io), R6 IO, DIFFIO_L26n (io), R7 IO, DIFFIO_L26p (io), T3 IO, DIFFIO_L29n (io), T4 IO, DIFFIO_L29p, (DQ1L)/(DQ3L)/(DQ1L) (io), T7 IO, VREFB2N0 (io), T8 IO, VREFB2N1 (io), U1 IO, DIFFIO_L30n, (DQ1L)/(DQ3L)/(DQ1L) (io), U2 IO, DIFFIO_L30p (io), U3 IO, DIFFIO_L27p, (DM0L)/(DM1L1/BWS#1L1)/(DM1L1/BWS#1L1) (io), U4 IO, DIFFIO_L27n (io), U5 IO, DIFFIO_L35n (io), U6 IO, DIFFIO_L35p, (DQ3L)/(DQ3L)/(DQ1L) (io), U7 IO, RUP1 (io), U8 IO, RDN1 (io), V1 IO, DIFFIO_L32n, (DQ1L)/(DQ3L)/(DQ1L) (io), V2 IO, DIFFIO_L32p, (DQ1L)/(DQ3L)/(DQ1L) (io), V3 IO, DIFFIO_L31n (io), V4 IO, DIFFIO_L31p, (DQ1L)/(DQ3L)/(DQ1L) (io), V5 IO, DIFFIO_L42n (io), V6 IO, DIFFIO_L42p (io), V7 IO, DIFFIO_L43n (io), V8 IO, DIFFIO_L43p (io), W1 IO, DIFFIO_L34n, (DM1L/BWS#1L)/(DM3L0/BWS#3L0)/(DM1L2/BWS#1L2) (io), W2 IO, DIFFIO_L34p, (DQ1L)/(DQ3L)/(DQ1L) (io), W3 IO, DIFFIO_L44n (io), W4 IO, DIFFIO_L44p (io), W7 IO (io), W8 IO, DIFFIO_L46p (io), Y3 IO, DIFFIO_L36n (io), Y4 IO, DIFFIO_L36p, (DQ3L)/(DQ3L)/(DQ1L) (io), Y5 IO, DIFFIO_L45n (io), Y6 IO, DIFFIO_L45p (io), Y7 IO, DIFFIO_L46n (io)
part C pins: AA8 IO, DIFFIO_B11p (io), AA10 IO, DIFFIO_B11n, (DQ3B)/(DQ3B)/(DQ5B) (io), AA12 IO, DIFFIO_B25n (io), AA13 IO, DIFFIO_B26n (io), AA14 IO, DIFFIO_B27p (io), AB7 IO, DIFFIO_B10p (io), AB8 IO, DIFFIO_B8n (io), AB9 IO, DIFFIO_B8p, (DM3B/BWS#3B)/(DM3B1/BWS#3B1)/(DM5B3/BWS#5B3) (io), AB10 IO, DIFFIO_B19p (io), AB11 IO, VREFB3N1 (io), AB12 IO, DIFFIO_B22n (io), AB13 IO, VREFB3N0 (io), AB14 IO, DIFFIO_B27n (io), AC7 IO, DIFFIO_B6n (io), AC8 IO, DIFFIO_B10n, (DQ3B)/(DQ3B)/(DQ5B) (io), AC10 IO, DIFFIO_B19n (io), AC11 IO, DIFFIO_B24p (io), AC12 IO, DIFFIO_B22p (io), AC14 IO, DIFFIO_B29p (io), AD4 IO, DIFFIO_B2p (io), AD5 IO, DIFFIO_B1p (io), AD7 IO, (DQS1B/CQ1B#,CDPCLK2)/(DQS1B/CQ1B#,CDPCLK2)/(DQS1B/CQ1B#,CDPCLK2) (io), AD8 IO, DIFFIO_B6p, (DQ1B)/_/_ (io), AD10 IO, (DQ3B)/(DQ3B)/(DQ5B) (io), AD11 IO, DIFFIO_B24n (io), AD12 IO (io), AD14 IO, DIFFIO_B29n (io), AE4 IO, DIFFIO_B3p (io), AE5 IO, PLL1_CLKOUTp (io), AE6 IO, DIFFIO_B1n, (DM1B)/_/_ (io), AE7 IO, DIFFIO_B13p (io), AE8 IO, DIFFIO_B14p (io), AE9 IO, (DQ5B)/(DQ3B)/(DQ5B) (io), AE10 IO, DIFFIO_B15p, (DQS3B/CQ3B#,DPCLK2)/(DQS3B/CQ3B#,DPCLK2)/(DQS3B/CQ3B#,DPCLK2) (io), AE11 IO, DIFFIO_B18p, (DQ5B)/(DQ3B)/(DQ5B) (io), AE12 IO, DIFFIO_B17p, (DQ5B)/(DQ3B)/(DQ5B) (io), AE13 IO, DIFFIO_B21p, (DQ5B)/(DQ3B)/(DQ5B) (io), AE14 IO, DIFFIO_B23p (io), AF3 IO, DIFFIO_B4n (io), AF4 IO, DIFFIO_B2n, (DQ1B)/_/_ (io), AF5 IO, PLL1_CLKOUTn (io), AF6 IO, (DQ1B)/_/_ (io), AF7 IO, DIFFIO_B13n, (DQ3B)/(DQ3B)/(DQ5B) (io), AF8 IO, DIFFIO_B14n, (DM5B/BWS#5B)/(DM3B0/BWS#3B0)/(DM5B2/BWS#5B2) (io), AF9 IO, (DQ3B)/(DQ3B)/(DQ5B) (io), AF10 IO, DIFFIO_B15n, (DQ5B)/(DQ3B)/(DQ5B) (io), AF11 IO, DIFFIO_B18n, (DQS5B/CQ5B#,DPCLK3)/(DQS5B/CQ5B#,DPCLK3)/(DQS5B/CQ5B#,DPCLK3) (io), AF12 IO, DIFFIO_B17n (io), AF13 IO, DIFFIO_B21n (io), AF14 IO, DIFFIO_B23n (io), AG3 IO, DIFFIO_B3n, (DQ1B)/_/_ (io), AG4 IO, DIFFIO_B5p (io), AG6 IO, DIFFIO_B7p, (DQ1B)/_/_ (io), AG7 IO, DIFFIO_B9p, (DQ3B)/(DQ3B)/(DQ5B) (io), AG8 IO, DIFFIO_B12p, (DQ3B)/(DQ3B)/(DQ5B) (io), AG10 IO, DIFFIO_B16p, (DQ5B)/(DQ3B)/(DQ5B) (io), AG11 IO, DIFFIO_B20p, (DQ5B)/(DQ3B)/(DQ5B) (io), AG12 IO, DIFFIO_B28p, (DQ5B)/(DQ3B)/(DQ5B) (io), AH3 IO, DIFFIO_B4p, (DQ1B)/_/_ (io), AH4 IO, DIFFIO_B5n, (DQ1B)/_/_ (io), AH6 IO, DIFFIO_B7n, (DQ1B)/_/_ (io), AH7 IO, DIFFIO_B9n, (DQ3B)/(DQ3B)/(DQ5B) (io), AH8 IO, DIFFIO_B12n, (DQ3B)/(DQ3B)/(DQ5B) (io), AH10 IO, DIFFIO_B16n (io), AH11 IO, DIFFIO_B20n, (DQ5B)/(DQ3B)/(DQ5B) (io), AH12 IO, DIFFIO_B28n (io), Y10 IO, VREFB3N2 (io), Y12 IO, DIFFIO_B25p (io), Y13 IO, DIFFIO_B26p (io), Y14 IO, DIFFIO_B30p (io), Y15 IO, DIFFIO_B30n (io)
part D pins: AA15 IO, VREFB4N2 (io), AA16 IO, DIFFIO_B35p (io), AA17 IO, RUP2 (io), AA19 IO, DIFFIO_B56n (io), AA21 IO (io), AB15 IO (io), AB16 IO, DIFFIO_B35n, (DQ4B)/(DQ5B)/(DQ5B) (io), AB17 IO, RDN2 (io), AB18 IO, DIFFIO_B53n (io), AB19 IO, DIFFIO_B53p (io), AB20 IO, VREFB4N0 (io), AB21 IO, DIFFIO_B57n (io), AB22 IO, DIFFIO_B57p (io), AC15 IO, DIFFIO_B31p, (DM4B)/(DM5B1/BWS#5B1)/(DM5B1/BWS#5B1) (io), AC17 IO, DIFFIO_B39p (io), AC18 IO, VREFB4N1 (io), AC19 IO, DIFFIO_B50p (io), AC21 IO, DIFFIO_B55p (io), AC22 IO, DIFFIO_B58p (io), AD15 IO, DIFFIO_B31n (io), AD17 IO, DIFFIO_B39n, (DQ2B)/(DQ5B)/(DQ5B) (io), AD18 IO, (DQ0B)/_/_ (io), AD19 IO, DIFFIO_B50n (io), AD21 IO, DIFFIO_B55n (io), AD22 IO, DIFFIO_B58n (io), AD24 IO (io), AD25 IO, DIFFIO_B54p (io), AE15 IO, DIFFIO_B32p, _/(DQ5B)/(DQ5B) (io), AE16 IO, DIFFIO_B34p (io), AE17 IO, DIFFIO_B36p, (DQ4B)/(DQ5B)/(DQ5B) (io), AE18 IO, DIFFIO_B41p, (DQS2B/CQ3B,DPCLK5)/(DQS2B/CQ3B,DPCLK5)/(DQS2B/CQ3B,DPCLK5) (io), AE19 IO, DIFFIO_B44p, (DQ2B)/(DQ5B)/(DQ5B) (io), AE20 IO, DIFFIO_B46p (io), AE21 IO, DIFFIO_B47p, (DQ0B)/_/_ (io), AE22 IO, DIFFIO_B52p (io), AE23 IO, PLL4_CLKOUTp (io), AE24 IO, DIFFIO_B54n, (DQ0B)/_/_ (io), AE25 IO, DIFFIO_B48p, (DQ0B)/_/_ (io), AF15 IO, DIFFIO_B32n, (DQ4B)/(DQ5B)/(DQ5B) (io), AF16 IO, DIFFIO_B34n, (DQ4B)/(DQ5B)/(DQ5B) (io), AF17 IO, DIFFIO_B36n, (DQS4B/CQ5B,DPCLK4)/(DQS4B/CQ5B,DPCLK4)/(DQS4B/CQ5B,DPCLK4) (io), AF18 IO, DIFFIO_B41n (io), AF19 IO, DIFFIO_B44n (io), AF20 IO, DIFFIO_B46n, (DQ0B)/_/_ (io), AF21 IO, DIFFIO_B47n (io), AF22 IO, DIFFIO_B52n, (DQ0B)/_/_ (io), AF23 IO, PLL4_CLKOUTn (io), AF24 IO, DIFFIO_B45p, (DQ2B)/(DQ5B)/(DQ5B) (io), AF25 IO, DIFFIO_B45n, (DM0B)/(DQ5B)/(DQ5B) (io), AF26 IO, DIFFIO_B48n, (DQS0B/CQ1B,CDPCLK3)/(DQS0B/CQ1B,CDPCLK3)/(DQS0B/CQ1B,CDPCLK3) (io), AG17 IO, DIFFIO_B33p, (DQ4B)/(DQ5B)/(DQ5B) (io), AG18 IO, DIFFIO_B37p, (DQ4B)/(DQ5B)/(DQ5B) (io), AG19 IO, DIFFIO_B38p (io), AG21 IO, DIFFIO_B40p, (DQ2B)/(DQ5B)/(DQ5B) (io), AG22 IO, DIFFIO_B42p, (DQ2B)/(DQ5B)/(DQ5B) (io), AG23 IO, DIFFIO_B43p (io), AG25 IO, DIFFIO_B49p (io), AG26 IO, DIFFIO_B59p, (DQ0B)/_/_ (io), AH17 IO, DIFFIO_B33n, (DQ4B)/(DQ5B)/(DQ5B) (io), AH18 IO, DIFFIO_B37n, (DQ4B)/(DQ5B)/(DQ5B) (io), AH19 IO, DIFFIO_B38n, (DM2B)/(DM5B0/BWS#5B0)/(DM5B0/BWS#5B0) (io), AH21 IO, DIFFIO_B40n, (DQ2B)/(DQ5B)/(DQ5B) (io), AH22 IO, DIFFIO_B42n, (DQ2B)/(DQ5B)/(DQ5B) (io), AH23 IO, DIFFIO_B43n, (DQ2B)/(DQ5B)/(DQ5B) (io), AH25 IO, DIFFIO_B49n, (DQ0B)/_/_ (io), AH26 IO, DIFFIO_B59n (io), Y16 IO, DIFFIO_B51n (io), Y17 IO, DIFFIO_B51p (io), Y19 IO, DIFFIO_B56p (io)
part E pins: AA22 IO, RUP3 (io), AA23 IO (io), AA24 IO, VREFB5N2 (io), AA25 IO, DIFFIO_R43p (io), AA26 IO, DIFFIO_R43n, (DQ3R)/(DQ3R)/(DQ1R) (io), AB23 IO, RDN3 (io), AB24 IO, (DM3R/BWS#3R)/(DM3R1/BWS#3R1)/(DM1R3/BWS#1R3) (io), AB25 IO, DIFFIO_R44p (io), AB26 IO, DIFFIO_R44n, (DQ3R)/(DQ3R)/(DQ1R) (io), AB27 IO, DIFFIO_R42p, (DQ1R)/(DQ3R)/(DQ1R) (io), AB28 IO, DIFFIO_R42n, (DM1R/BWS#1R)/(DM3R0/BWS#3R0)/(DM1R2/BWS#1R2) (io), AC24 IO, DIFFIO_R51p (io), AC25 IO, DIFFIO_R51n (io), AC26 IO, DIFFIO_R49p (io), AC27 IO, DIFFIO_R45p, (DQ3R)/(DQ3R)/(DQ1R) (io), AC28 IO, DIFFIO_R45n, (DQ3R)/(DQ3R)/(DQ1R) (io), AD26 IO, DIFFIO_R49n, (DQ3R)/(DQ3R)/(DQ1R) (io), AD27 IO, DIFFIO_R47p, (DQ3R)/(DQ3R)/(DQ1R) (io), AD28 IO, DIFFIO_R47n, (DQ3R)/(DQ3R)/(DQ1R) (io), AE26 IO, DIFFIO_R50p (io), AE27 IO, DIFFIO_R48p (io), AE28 IO, DIFFIO_R48n, (DQ3R)/(DQ3R)/(DQ1R) (io), AF27 IO, DIFFIO_R50n, (DQS3R/CQ3R#,CDPCLK4)/(DQS3R/CQ3R#,CDPCLK4)/(DQS3R/CQ3R#,CDPCLK4) (io), P21 IO, DIFFIO_R25p (io), R21 IO, DIFFIO_R25n (io), R22 IO, DIFFIO_R26p (io), R23 IO, DIFFIO_R26n (io), R24 IO (io), R25 IO, DIFFIO_R28p (io), R26 IO, DIFFIO_R28n, (DQ1R)/(DQ3R)/(DQ1R) (io), R27 IO, DIFFIO_R27p, _/(DQ1R)/(DQ1R) (io), R28 IO, DIFFIO_R27n, (DM0R)/(DM1R1/BWS#1R1)/(DM1R1/BWS#1R1) (io), T21 IO, DIFFIO_R29p, (DEV_CLRn) (io), T22 IO, DIFFIO_R29n, (DEV_OE) (io), T25 IO, DIFFIO_R30p, (DQS1R/CQ1R#,DPCLK6)/(DQS1R/CQ1R#,DPCLK6)/(DQS1R/CQ1R#,DPCLK6) (io), T26 IO, DIFFIO_R30n (io), U21 IO (io), U22 IO, DIFFIO_R34p (io), U23 IO, VREFB5N1 (io), U24 IO, VREFB5N0 (io), U25 IO, DIFFIO_R33p (io), U26 IO, DIFFIO_R33n (io), U27 IO, DIFFIO_R32p (io), U28 IO, DIFFIO_R32n, (DQ1R)/(DQ3R)/(DQ1R) (io), V21 IO, DIFFIO_R35p (io), V22 IO, DIFFIO_R34n (io), V23 IO, DIFFIO_R36p (io), V24 IO, DIFFIO_R36n (io), V25 IO, DIFFIO_R37p, (DQ1R)/(DQ3R)/(DQ1R) (io), V26 IO, DIFFIO_R37n (io), V27 IO, DIFFIO_R38p (io), V28 IO, DIFFIO_R38n, (DQ1R)/(DQ3R)/(DQ1R) (io), W21 IO, DIFFIO_R35n (io), W22 IO, DIFFIO_R31p (io), W25 IO, DIFFIO_R40p (io), W26 IO, DIFFIO_R40n, (DQ1R)/(DQ3R)/(DQ1R) (io), W27 IO, DIFFIO_R39n, (DQ1R)/(DQ3R)/(DQ1R) (io), W28 IO, DIFFIO_R39p, (DQ1R)/(DQ3R)/(DQ1R) (io), Y22 IO, DIFFIO_R31n (io), Y23 IO, DIFFIO_R46p (io), Y24 IO, DIFFIO_R46n, (DQ3R)/(DQ3R)/(DQ1R) (io), Y25 IO, DIFFIO_R41p (io), Y26 IO, DIFFIO_R41n, (DQ1R)/(DQ3R)/(DQ1R) (io)
part F pins: C27 IO, DIFFIO_R8n, (PADD20), (DQS2R/CQ3R,CDPCLK5)/(DQS2R/CQ3R,CDPCLK5)/(DQS2R/CQ3R,CDPCLK5) (io), D26 IO, DIFFIO_R8p (io), D27 IO, DIFFIO_R9p, (PADD21), (DQ2R)/(DQ1R)/(DQ1R) (io), D28 IO, DIFFIO_R9n, (PADD22) (io), E26 IO, DIFFIO_R10n (io), E27 IO, DIFFIO_R12p, (DQ2R)/(DQ1R)/(DQ1R) (io), E28 IO, DIFFIO_R12n, (PADD23), (DQ2R)/(DQ1R)/(DQ1R) (io), F24 IO, DIFFIO_R2p (io), F25 IO, DIFFIO_R2n (io), F26 IO, DIFFIO_R10p, (DQ2R)/(DQ1R)/(DQ1R) (io), F27 IO, DIFFIO_R13p, (RDY) (io), F28 IO, DIFFIO_R13n, (nAVD), (DQ2R)/(DQ1R)/(DQ1R) (io), G23 IO, DIFFIO_R1p (io), G24 IO, DIFFIO_R1n (io), G25 IO, DIFFIO_R3p (io), G26 IO, DIFFIO_R3n (io), G27 IO, DIFFIO_R15p, (nOE), (DQ2R)/(DQ1R)/(DQ1R) (io), G28 IO, DIFFIO_R15n, (nWE), (DQ2R)/(DQ1R)/(DQ1R) (io), H22 IO (io), H23 IO, DIFFIO_R4p (io), H24 IO, DIFFIO_R4n (io), H25 IO, DIFFIO_R11p (io), H26 IO, DIFFIO_R11n (io), J22 IO, VREFB6N0 (io), J23 IO, DIFFIO_R6p (io), J24 IO, DIFFIO_R6n (io), J25 IO, DIFFIO_R16p, _/(DQ1R)/(DQ1R) (io), J26 IO, DIFFIO_R16n (io), K21 IO, DIFFIO_R5p (io), K22 IO, DIFFIO_R5n (io), K25 IO, DIFFIO_R14p (io), K26 IO, DIFFIO_R14n, (DQ2R)/(DQ1R)/(DQ1R) (io), K27 IO, DIFFIO_R17p, (DQ0R)/(DQ1R)/(DQ1R) (io), K28 IO, DIFFIO_R17n, (DQ0R)/(DQ1R)/(DQ1R) (io), L21 IO, DIFFIO_R7p (io), L22 IO, DIFFIO_R7n (io), L23 IO, DIFFIO_R18p (io), L24 IO, DIFFIO_R18n, (DQ0R)/(DQ1R)/(DQ1R) (io), L25 IO (io), L26 IO, (DM2R)/(DM1R0/BWS#1R0)/(DM1R0/BWS#1R0) (io), L27 IO, DIFFIO_R19p, (DQ0R)/(DQ1R)/(DQ1R) (io), L28 IO, DIFFIO_R19n, (DQ0R)/(DQ1R)/(DQ1R) (io), M21 IO, VREFB6N1 (io), M23 IO (io), M24 IO (io), M25 IO, DIFFIO_R20p (io), M26 IO, DIFFIO_R20n, (DQ0R)/(DQ1R)/(DQ1R) (io), M27 IO, DIFFIO_R21p, (DQ0R)/(DQ1R)/(DQ1R) (io), M28 IO, DIFFIO_R21n, (DQ0R)/(DQ1R)/(DQ1R) (io), N21 IO, VREFB6N2 (io), N25 IO, DIFFIO_R22p (io), N26 IO, DIFFIO_R22n, (DQS0R/CQ1R,DPCLK7)/(DQS0R/CQ1R,DPCLK7)/(DQS0R/CQ1R,DPCLK7) (io), P25 IO, DIFFIO_R24p, (CRC_ERROR) (io), P26 IO, DIFFIO_R24n, (INIT_DONE) (io), P27 IO, DIFFIO_R23p, (CLKUSR) (io), P28 IO, DIFFIO_R23n, (nCEO) (io)
part G pins: A17 IO, DIFFIO_T35n, (PADD11), _/(DQ5T)/(DQ5T) (io), A18 IO, DIFFIO_T44n, (PADD7) (io), A19 IO, DIFFIO_T45n, (PADD5), (DQ4T)/(DQ5T)/(DQ5T) (io), A21 IO, DIFFIO_T52n, (DQ2T)/(DQ5T)/(DQ5T) (io), A22 IO, DIFFIO_T53n, (DQ2T)/(DQ5T)/(DQ5T) (io), A23 IO, DIFFIO_T56n, (DQ0T)/_/_ (io), A25 IO, DIFFIO_T59p, (DQS0T/CQ1T,CDPCLK6)/(DQS0T/CQ1T,CDPCLK6)/(DQS0T/CQ1T,CDPCLK6) (io), A26 IO, DIFFIO_T59n, (DQ0T)/_/_ (io), B17 IO, DIFFIO_T35p, (PADD12), (DQS4T/CQ5T,DPCLK9)/(DQS4T/CQ5T,DPCLK9)/(DQS4T/CQ5T,DPCLK9) (io), B18 IO, DIFFIO_T44p, (PADD8), (DQ4T)/(DQ5T)/(DQ5T) (io), B19 IO, DIFFIO_T45p, (PADD6), (DQ4T)/(DQ5T)/(DQ5T) (io), B21 IO, DIFFIO_T52p, (DQ2T)/(DQ5T)/(DQ5T) (io), B22 IO, DIFFIO_T53p, (PADD0) (io), B23 IO, DIFFIO_T56p, (DM0T)/_/_ (io), B25 IO, (DQ0T)/_/_ (io), B26 IO, DIFFIO_T61p, (DQ0T)/_/_ (io), C15 IO, DIFFIO_T32n, (PADD13) (io), C16 IO, DIFFIO_T36n, (PADD9), (DQ4T)/(DQ5T)/(DQ5T) (io), C17 IO, DIFFIO_T46n, (PADD3), (DQ4T)/(DQ5T)/(DQ5T) (io), C18 IO, DIFFIO_T50n, (PADD1), _/(DQ5T)/(DQ5T) (io), C19 IO, DIFFIO_T47n, (DQ4T)/(DQ5T)/(DQ5T) (io), C20 IO, DIFFIO_T49n, (DM2T)/(DM5T0/BWS#5T0)/(DM5T0/BWS#5T0) (io), C21 IO, (DQ2T)/(DQ5T)/(DQ5T) (io), C22 IO, DIFFIO_T54n, (DQ2T)/(DQ5T)/(DQ5T) (io), C23 IO, PLL2_CLKOUTn (io), C24 IO, DIFFIO_T55n, (DQ2T)/(DQ5T)/(DQ5T) (io), C25 IO, DIFFIO_T57p, (DQ0T)/_/_ (io), C26 IO, DIFFIO_T61n (io), D15 IO, DIFFIO_T32p, (PADD14), (DQ5T)/(DQ3T)/(DQ5T) (io), D16 IO, DIFFIO_T36p, (PADD10) (io), D17 IO, DIFFIO_T46p, (PADD4), (DQS2T/CQ3T,DPCLK8)/(DQS2T/CQ3T,DPCLK8)/(DQS2T/CQ3T,DPCLK8) (io), D18 IO, DIFFIO_T50p, (PADD2) (io), D19 IO, DIFFIO_T47p (io), D20 IO, DIFFIO_T49p, (DQ4T)/(DQ5T)/(DQ5T) (io), D21 IO, DIFFIO_T54p, (DQ2T)/(DQ5T)/(DQ5T) (io), D22 IO, DIFFIO_T60n, (DQ0T)/_/_ (io), D23 IO, PLL2_CLKOUTp (io), D24 IO, DIFFIO_T55p (io), D25 IO, DIFFIO_T57n (io), E15 IO, DIFFIO_T33p, (DM4T)/(DM5T1/BWS#5T1)/(DM5T1/BWS#5T1) (io), E17 IO, DIFFIO_T38p, (DQ4T)/(DQ5T)/(DQ5T) (io), E18 IO, DIFFIO_T51n, (DQ2T)/(DQ5T)/(DQ5T) (io), E19 IO, RDN4 (io), E21 IO, DIFFIO_T58n (io), E22 IO, DIFFIO_T60p, (DQ0T)/_/_ (io), E24 IO, DIFFIO_T48n (io), E25 IO, DIFFIO_T48p (io), F15 IO, DIFFIO_T33n (io), F17 IO, DIFFIO_T38n (io), F18 IO, DIFFIO_T51p (io), F19 IO, RUP4 (io), F21 IO, DIFFIO_T58p, (DQ0T)/_/_ (io), F22 IO, VREFB7N0 (io), G15 IO, VREFB7N2 (io), G16 IO, DIFFIO_T39n (io), G17 IO, VREFB7N1 (io), G18 IO, DIFFIO_T40p (io), G19 IO, DIFFIO_T40n (io), G20 IO, DIFFIO_T43n (io), G21 IO, DIFFIO_T43p (io), G22 IO, DIFFIO_T41p (io), H15 IO, DIFFIO_T34n (io), H16 IO, DIFFIO_T37p (io), H17 IO, DIFFIO_T39p (io), H19 IO, DIFFIO_T42n (io), H21 IO, DIFFIO_T41n (io), J15 IO, DIFFIO_T34p (io), J16 IO, DIFFIO_T37n (io), J17 IO (io), J19 IO, DIFFIO_T42p (io)
part H pins: A3 IO, DIFFIO_T3p, (DQ1T)/_/_ (io), A4 IO, DIFFIO_T4n, (DQ1T)/_/_ (io), A6 IO, DIFFIO_T17n (io), A7 IO, DIFFIO_T18n, (DQ3T)/(DQ3T)/(DQ5T) (io), A8 IO, DIFFIO_T11n, (DATA9), (DM3T/BWS#3T)/(DM3T1/BWS#3T1)/(DM5T3/BWS#5T3) (io), A10 IO, DIFFIO_T23n, (PADD18) (io), A11 IO, DIFFIO_T25n, (DATA2), (DQ5T)/(DQ3T)/(DQ5T) (io), A12 IO, DIFFIO_T27n, (DQ5T)/(DQ3T)/(DQ5T) (io), B3 IO, DIFFIO_T3n (io), B4 IO, DIFFIO_T4p, (DATA12), (DQS1T/CQ1T#,CDPCLK7)/(DQS1T/CQ1T#,CDPCLK7)/(DQS1T/CQ1T#,CDPCLK7) (io), B6 IO, DIFFIO_T17p, (DATA6), (DQ3T)/(DQ3T)/(DQ5T) (io), B7 IO, DIFFIO_T18p, (DATA5), (DQ3T)/(DQ3T)/(DQ5T) (io), B8 IO, DIFFIO_T11p (io), B10 IO, DIFFIO_T23p, (DATA4), (DM5T/BWS#5T)/(DM3T0/BWS#3T0)/(DM5T2/BWS#5T2) (io), B11 IO, DIFFIO_T25p, (DATA3), (DQ5T)/(DQ3T)/(DQ5T) (io), B12 IO, DIFFIO_T27p (io), C3 IO (io), C4 IO, DIFFIO_T2n, (DQ1T)/_/_ (io), C5 IO, PLL3_CLKOUTn (io), C6 IO, (DQ1T)/_/_ (io), C7 IO, DIFFIO_T9n, (DATA10), (DQ1T)/_/_ (io), C8 IO, DIFFIO_T10n, (DQ1T)/_/_ (io), C9 IO, DIFFIO_T14n, (DQ3T)/(DQ3T)/(DQ5T) (io), C10 IO, DIFFIO_T21n, (DQ3T)/(DQ3T)/(DQ5T) (io), C11 IO, DIFFIO_T15n, (DATA7), (DQ3T)/(DQ3T)/(DQ5T) (io), C12 IO, DIFFIO_T29n, (PADD16), (DQ5T)/(DQ3T)/(DQ5T) (io), C13 IO, DIFFIO_T31n, (DQ5T)/(DQ3T)/(DQ5T) (io), C14 IO, DIFFIO_T30n, (DQ5T)/(DQ3T)/(DQ5T) (io), D4 IO, DIFFIO_T2p, (DM1T)/_/_ (io), D5 IO, PLL3_CLKOUTp (io), D6 IO, DIFFIO_T8p, (DQ1T)/_/_ (io), D7 IO, DIFFIO_T9p, (DATA11) (io), D8 IO, DIFFIO_T10p, (DQ1T)/_/_ (io), D9 IO, DIFFIO_T14p, (DATA8) (io), D10 IO, DIFFIO_T21p, (DQ3T)/(DQ3T)/(DQ5T) (io), D11 IO, DIFFIO_T15p (io), D12 IO, DIFFIO_T29p, (PADD17), (DQS5T/CQ5T#,DPCLK10)/(DQS5T/CQ5T#,DPCLK10)/(DQS5T/CQ5T#,DPCLK10) (io), D13 IO, DIFFIO_T31p, (DQ5T)/(DQ3T)/(DQ5T) (io), D14 IO, DIFFIO_T30p, (PADD15) (io), E4 IO, DIFFIO_T1n (io), E5 IO, DIFFIO_T1p (io), E7 IO, DIFFIO_T8n (io), E8 IO, DIFFIO_T7n (io), E10 IO (io), E11 IO, DIFFIO_T19n, (DQ3T)/(DQ3T)/(DQ5T) (io), E12 IO, DIFFIO_T20n, (DATA14), (DQS3T/CQ3T#,DPCLK11)/(DQS3T/CQ3T#,DPCLK11)/(DQS3T/CQ3T#,DPCLK11) (io), E14 IO, DIFFIO_T26p, (DQ5T)/(DQ3T)/(DQ5T) (io), F7 IO, DIFFIO_T5p (io), F8 IO, DIFFIO_T7p (io), F10 IO, DIFFIO_T13n (io), F11 IO, DIFFIO_T19p (io), F12 IO, DIFFIO_T20p, (DATA13) (io), F14 IO, DIFFIO_T26n (io), G7 IO, DIFFIO_T5n (io), G8 IO, DIFFIO_T6n (io), G9 IO, VREFB8N2 (io), G10 IO, DIFFIO_T13p (io), G11 IO, DIFFIO_T16n (io), G12 IO, VREFB8N1 (io), G13 IO, DIFFIO_T22n, (PADD19) (io), G14 IO, VREFB8N0 (io), H8 IO, DIFFIO_T6p (io), H10 IO, DIFFIO_T12n (io), H12 IO, DIFFIO_T16p (io), H13 IO, DIFFIO_T22p, (DATA15), (DQ3T)/(DQ3T)/(DQ5T) (io), H14 IO, DIFFIO_T28n (io), J10 IO, DIFFIO_T12p (io), J12 IO, DIFFIO_T24p (io), J13 IO, DIFFIO_T24n (io), J14 IO, DIFFIO_T28p (io)
part I pins: A14 CLK10, DIFFCLK_4n (in), A15 CLK8, DIFFCLK_5n (in), AG14 CLK15, DIFFCLK_6p (in), AG15 CLK13, DIFFCLK_7p (in), AH14 CLK14, DIFFCLK_6n (in), AH15 CLK12, DIFFCLK_7n (in), B14 CLK11, DIFFCLK_4p (in), B15 CLK9, DIFFCLK_5p (in), J1 CLK1, DIFFCLK_0n (in), J2 CLK0, DIFFCLK_0p (in), J27 CLK4, DIFFCLK_2p (in), J28 CLK5, DIFFCLK_2n (in), Y1 CLK3, DIFFCLK_1n (in), Y2 CLK2, DIFFCLK_1p (in), Y27 CLK6, DIFFCLK_3p (in), Y28 CLK7, DIFFCLK_3n (in)
part J pins: M6 nSTATUS (io), M22 MSEL2 (in), N22 MSEL0 (in), P3 DCLK (io), P4 nCONFIG (in), P5 TCK (in), P6 TDO (out), P7 TDI (in), P8 TMS (in), P22 MSEL3 (in), P23 MSEL1 (in), P24 CONF_DONE (io), R8 nCE (in)
part K pins: A2 VCCIO8 (power), A5 VCCIO8 (power), A9 VCCIO8 (power), A13 VCCIO8 (power), A16 VCCIO7 (power), A20 VCCIO7 (power), A24 VCCIO7 (power), A27 VCCIO7 (power), AA1 VCCIO2 (power), AA11 VCCIO3 (power), AA18 VCCIO4 (power), AA28 VCCIO5 (power), AD6 VCCIO3 (power), AD9 VCCIO3 (power), AD13 VCCIO3 (power), AD16 VCCIO4 (power), AD20 VCCIO4 (power), AD23 VCCIO4 (power), AG1 VCCIO2 (power), AG28 VCCIO5 (power), AH2 VCCIO3 (power), AH5 VCCIO3 (power), AH9 VCCIO3 (power), AH13 VCCIO3 (power), AH16 VCCIO4 (power), AH20 VCCIO4 (power), AH24 VCCIO4 (power), AH27 VCCIO4 (power), B1 VCCIO1 (power), B28 VCCIO6 (power), E6 VCCIO8 (power), E9 VCCIO8 (power), E13 VCCIO8 (power), E16 VCCIO7 (power), E20 VCCIO7 (power), E23 VCCIO7 (power), H1 VCCIO1 (power), H11 VCCIO8 (power), H18 VCCIO7 (power), H28 VCCIO6 (power), K5 VCCIO1 (power), K9 VCCINT (power), K11 VCCINT (power), K13 VCCINT (power), K15 VCCINT (power), K17 VCCINT (power), K19 VCCINT (power), K24 VCCIO6 (power), L10 VCCINT (power), L12 VCCINT (power), L14 VCCINT (power), L16 VCCINT (power), L18 VCCINT (power), L20 VCCINT (power), M9 VCCINT (power), M11 VCCINT (power), M13 VCCINT (power), M15 VCCINT (power), M17 VCCINT (power), M19 VCCINT (power), N1 VCCIO1 (power), N5 VCCIO1 (power), N10 VCCINT (power), N12 VCCINT (power), N14 VCCINT (power), N16 VCCINT (power), N18 VCCINT (power), N20 VCCINT (power), N24 VCCIO6 (power), N28 VCCIO6 (power), P9 VCCINT (power), P11 VCCINT (power), P13 VCCINT (power), P15 VCCINT (power), P17 VCCINT (power), P19 VCCINT (power), R10 VCCINT (power), R12 VCCINT (power), R14 VCCINT (power), R16 VCCINT (power), R18 VCCINT (power), R20 VCCINT (power), T1 VCCIO2 (power), T5 VCCIO2 (power), T9 VCCINT (power), T11 VCCINT (power), T13 VCCINT (power), T15 VCCINT (power), T17 VCCINT (power), T19 VCCINT (power), T24 VCCIO5 (power), T28 VCCIO5 (power), U10 VCCINT (power), U12 VCCINT (power), U14 VCCINT (power), U16 VCCINT (power), U18 VCCINT (power), U20 VCCINT (power), V9 VCCINT (power), V11 VCCINT (power), V13 VCCINT (power), V15 VCCINT (power), V17 VCCINT (power), V19 VCCINT (power), W5 VCCIO2 (power), W10 VCCINT (power), W12 VCCINT (power), W14 VCCINT (power), W16 VCCINT (power), W18 VCCINT (power), W20 VCCINT (power), W24 VCCIO5 (power)
part L pins: AA2 GND (power), AA27 GND (power), AC6 GND (power), AC9 GND (power), AC13 GND (power), AC16 GND (power), AC20 GND (power), AC23 GND (power), AF1 GND (power), AF28 GND (power), AG2 GND (power), AG5 GND (power), AG9 GND (power), AG13 GND (power), AG16 GND (power), AG20 GND (power), AG24 GND (power), AG27 GND (power), B2 GND (power), B5 GND (power), B9 GND (power), B13 GND (power), B16 GND (power), B20 GND (power), B24 GND (power), B27 GND (power), C1 GND (power), C28 GND (power), F6 GND (power), F9 GND (power), F13 GND (power), F16 GND (power), F20 GND (power), F23 GND (power), H2 GND (power), H27 GND (power), J11 GND (power), J18 GND (power), K6 GND (power), K10 GND (power), K12 GND (power), K14 GND (power), K16 GND (power), K18 GND (power), K20 GND (power), K23 GND (power), L9 GND (power), L11 GND (power), L13 GND (power), L15 GND (power), L17 GND (power), L19 GND (power), M10 GND (power), M12 GND (power), M14 GND (power), M16 GND (power), M18 GND (power), M20 GND (power), N2 GND (power), N6 GND (power), N9 GND (power), N11 GND (power), N13 GND (power), N15 GND (power), N17 GND (power), N19 GND (power), N23 GND (power), N27 GND (power), P10 GND (power), P12 GND (power), P14 GND (power), P16 GND (power), P18 GND (power), P20 GND (power), R9 GND (power), R11 GND (power), R13 GND (power), R15 GND (power), R17 GND (power), R19 GND (power), T2 GND (power), T6 GND (power), T10 GND (power), T12 GND (power), T14 GND (power), T16 GND (power), T18 GND (power), T20 GND (power), T23 GND (power), T27 GND (power), U9 GND (power), U11 GND (power), U13 GND (power), U15 GND (power), U17 GND (power), U19 GND (power), V10 GND (power), V12 GND (power), V14 GND (power), V16 GND (power), V18 GND (power), V20 GND (power), W6 GND (power), W9 GND (power), W11 GND (power), W13 GND (power), W15 GND (power), W17 GND (power), W19 GND (power), W23 GND (power), Y11 GND (power), Y18 GND (power)
part M pins: AA9 GNDA (power), AA20 GNDA (power), H9 GNDA (power), H20 GNDA (power), J8 VCCA3 (power), J9 VCCD_PLL3 (power), J20 VCCD_PLL2 (power), J21 VCCA2 (power), Y8 VCCA1 (power), Y9 VCCD_PLL1 (power), Y20 VCCD_PLL4 (power), Y21 VCCA4 (power)
part A text: BANK 1
part B text: BANK 2
part C text: BANK 3
part D text: BANK 4
part E text: BANK 5
part F text: BANK 6
part G text: BANK 7
part H text: BANK 8

## ETH_J0011D21BNL
designator CN?, comment RJ45 with magnetics
RJ45 with magnetics and LEDs (Kamami, Kristech,Mouser); Value: J0011D21BNL; Supplier: Kamami.pl/Mouser/Kristech
footprint J0011D21BNL (ethernet trafo with magnetics and LEDs)
pins: 0a case, 0b case, 0c case, 0d case, 1, 2 TD-, 3, 4, 5, 6, 7, 8, 9, 10, 11, 12
text: RD+; J8; CT; J7; RD-; J3; nc; J5; J4; J6; TD+; J2; CHS; J1; left; right

## EXB-E10C470J
designator RP?, comment value 47Rx8  (hidden comment: 47R x 8)
47R, 62.5mW Chip Resistor Bussed Network; Manufacturer1: Panasonic; Manufacturer1 PN: EXB-E10C470J; Tolerance: ±5%; TCR: 200ppm; Case: EXBE; Distributor1: DigiKey; Distributor1 PN: U8470CT-ND; Power Rating: 62.5mW
footprint EXBE (Resistor Array)
pins: 1, 2, 3, 4, 5, 6, 7, 8, 9, 10

## F_POLYSWITCH
designator F?
polymer FUSE
footprint SMD150-2
footprint SMD125-2
footprint PTC_SMD_1812 (PTC FUSE SMD1812 (Maritex))
pins: 1, 2
2 alternate drawings of the same symbol

## Fiducial Target
designator FTG1, comment Use only in PCB  (value not drawn)
Fiducial Target; Part Number: FIDUCIAL_TARGET_S100-200; Part Description: Scare Fiducial Target, Top Layer, 1.0mm, Top Sloder 2.0mm, Keepout =2.0mm; Mounted: No; Table: Pads; Component Kind: Standard (No BOM); Component Type: Standard (No BOM); Footprint: FIDUCIAL_TOP_S100-200; Pin Count: 1; Family: Fiducial; Socket: No; SMD: Yes; Status: None; ComponentHeight: 0mm; Author: CERN DEM JLC; CreateDate: 2/9/2010; LatestRevisionDate: 2/9/2010; PackageDescription: Scare Fiducial Target, Top Layer, 1.0mm, Top Sloder 2.0mm, Keepout =2.0mm
footprint FIDUCIAL_TOP_S100-200 (Scare Fiducial Target, Top Layer, 1.0mm, Top Sloder 2.0mm, Keepout =2.0mm)

## HEADER80
designator J8
Manufacturer1 PN: 2380-6121TG; Manufacturer1: 3M; Distributor1 PN: 2380-6121TG-ND; Distributor1: Digikey
footprint HEADER80
pins: 1, 2, 3, 4, 5, 6, 7, 8, 9, 10, 11, 12, 13, 14, 15, 16, 17, 18, 19, 20, 21, 22, 23, 24, 25, 26, 27, 28, 29, 30, 31, 32, 33, 34, 35, 36, 37, 38, 39, 40, 41, 42, 43, 44, 45, 46, 47, 48, 49, 50, 51, 52, 53, 54, 55, 56, 57, 58, 59, 60, 61, 62, 63, 64, 65, 66, 67, 68, 69, 70, 71, 72, 73, 74, 75, 76, 77, 78, 79, 80
2 alternate drawings of the same symbol

## Header 16
designator P1
Header, 16-Pin; LatestRevisionDate: 17-Jul-2002; LatestRevisionNote: Re-released for DXP Platform.; Publisher: Altium Limited
footprint HDR1X16 (Connector; Header; 16 Position)
signal-integrity model Connector
pins: 1, 2, 3, 4, 5, 6, 7, 8, 9, 10, 11, 12, 13, 14, 15, 16

## ICS8343
designator IC?
1:16 LVCMOS fanout; RefId: 800-1112-ND; Value: ICS8343AYI-01LF; Supplier: Digikey
footprint TQFP80P900X900-32AM (Thin QFP, 32-Leads, Body 7x7mm, Pitch 0.8mm, IPC Low Density)
part A pins: 4 Q3 (out), 5 Q4 (out), 9 Q5 (out), 10 Q6 (out), 11 Q7 (out), 12 CLK (in), 14 Q8 (out), 15 Q9 (out), 16 Q10 (out), 20 Q11 (out), 21 Q12 (out), 25 Q13 (out), 26 Q14 (out), 27 Q15 (out), 28 OE2 (in), 29 OE1 (in), 30 Q0 (out), 31 Q1 (out), 32 Q2 (out)
part B pins: 1 VDD1 (power), 2 VDD1 (power), 3 VDD1 (power), 6 GND (power), 7 GND (power), 8 GND (power), 13 VDD (power), 17 GND (power), 18 GND (power), 19 GND (power), 22 VDD2 (power), 23 VDD2 (power), 24 VDD2 (power)

## ICS83023I
designator IC?
350MHz Differential-to-LVCMOS Translator/Buffer; Manufacturer1 PN: ICS83023AMILF; Manufacturer1: IDT; Distributor1: Digikey; Distributor1 PN: 800-1102-5-ND
footprint SOIC127P600X175-8N (SOIC 8, Pitch 1.27mm - Body 4x5mm, IPC Medium Density)
pins: 1 CLK0 (in), 2 nCLK0 (in), 3 nCLK1 (in), 4 CLK1 (in), 5 GND (power), 6 Q1 (out), 7 Q0 (out), 8 VCC (power)

## IFC_DM9161AE
designator IC?, comment DM9161AEP  (value not drawn)
Davicom 100Mbps ethernet PHY; DEV: QFP48_01; BOI: LQFP48; DESIG: 10/100 Fast Ethernet Tranceiver MII/RMII Auto MDIX; Right: 160; Bottom: 450; Value: DM9161AEP; FAB: DAVICOM; RoHS: YES
footprint LQFP48l
part A pins: 3 RX+ (in), 4 RX- (in), 7 TX+ (out), 8 TX- (out), 10 PWRDWN (in), 11 LED0/OP0 (io), 12 LED1/OP1 (io), 13 LED2/OP2 (io), 14 CABLESTS/LINKSTS (io), 16 TX_ER/TXD4 (in), 17 TXD3 (in), 18 TXD2 (in), 19 TXD1 (in), 20 TXD0 (in), 21 TX_EN (in), 22 TX_CLK/ISOLATE (io), 24 MDC (in), 25 MDIO (io), 26 RXD3/PHYAD3 (out), 27 RXD2/PHYAD2 (out), 28 RXD1/PHYAD1 (out), 29 RXD0/PHYAD0 (out), 31 LEDMODE (in), 32 ~{MDINTR} (hiz), 34 RX_CLK/10BTSER (out), 35 CRS/PHYAD4 (out), 36 COL/RMII (out), 37 RX_DV/TESTMODE (out), 38 RX_ER/RXD4/RPTR (out), 39 DISMDIX (in), 40 ~{RESET} (in), 42 REF_CLK/XT2 (io), 43 XT1 (in), 47 BGRESG (in), 48 BGRES (in)
part B pins: 1 AVDDR (power), 2 AVDDR (power), 5 AGND (power), 6 AGND (power), 9 AVDDT (power), 15 DGND (power), 23 DVDD (power), 30 DVDD (power), 33 DGND (power), 41 DVDD (power), 44 DGND (power), 46 AGND (power)

## IFC_MAX3232
designator IC?, comment MAX3232CDBR
Manufacturer1: Texas Instruments; Distributor1: Digikey; Distributor1 PN: 296-13093-1-ND; Manufacturer1 PN: MAX3232CDBR
footprint SOP65P780X200-16N (SOP, 0.65mm Pitch; 16 Pin, 5.30mm W X 6.20mm L X 2.00mm H Body, IPC Medium Density)
pins: 1 C1+, 2 V+, 3 C1-, 4 C2+, 5 C2-, 6 V-, 7 T2out (out), 8 R2in, 9 R2out (out), 10 T2in, 11 T1in, 12 R1out (out), 13 R1in, 14 T1out (out), 15 GND (power), 16 VCC (power)
2 alternate drawings of the same symbol
text: CMOS; RS232

## IL1209S
designator IC?
DC/DC converter
footprint IL1209S
pins: 1 -VIN (power), 2 +VIN (power), 3 -VOUT (power), 4 +VOUT (power)

## INA210_214
designator IC?, comment INA210
High/low side current monitor; Supplier: Farnell; Value: INA210
footprint TI_6sc70
pins: 1 REF (power), 2 GND (power), 3 V+ (power), 4 IN+, 5 IN-, 6 OUT (power)

## Inductor
designator L?  value 4.7uH
Code_IEC: 1005; Published: 8-Jun-2000; LatestRevisionDate: 17-Jul-2002; LatestRevisionNote: Re-released for DXP Platform.; PackageReference: 0402-A; Publisher: Altium Limited; Code_JEITA: 0402
footprint 0402-A (Chip Inductor; Body 1 x 0.5 mm (LxW typ))
footprint L0603 (Chip Inductor; Body 1.6 x 0.8 mm (LxW typ))
footprint 2012_Chip (2012 Chip; Chip Inductor; Body 2.0 x 1.2 mm (LxW typ))
footprint 2029 (Chip Inductor; Body 2 x 1.2 mm (LxW typ))
footprint 3261 (3216 Chip; Chip Inductor; Body 3.2 x 1.6 mm (LxW typ))
footprint 4564_Chip (4564 Chip; Chip Inductor; Body 4.5 x 6.4 mm (LxW typ))
simulation model INDUCTOR (Inductor)
signal-integrity model Inductor
footprint INDC2016X160N (Chip Inductor, EIA 0805, Metric 2016, Body 2.0x1.6mm, IPC Medium Density)
pins: 1, 2

## IRF9910
designator T1, comment IRF9910Pbf
Dual SO-8 MOSFET For POL Cconverter; Part Description: 20V 10A(Q1) 20V 12A (Q2) Dual SO-8 MOSFET For POL Cconverter; Manufacturer1: INTERNATIONAL RECTIFIER; Table: Transistors; Part Number: IRF9910Pbf; Component Kind: Standard; Component Type: Standard; Device: IRF9910Pbf; Footprint: SOIC127P600X175-8N; PackageDescription: SOIC 8, Pitch 1.27mm - Body 4x5mm, IPC Medium Density; Manufacturer1 PN: IRF9910Pbf; Pin Count: 8; Case: DO8; Mounted: Yes; Socket: No; SMD: Yes; ComponentHeight: 1.75mm; HelpURL: \\cern.ch\dfs\Applications\Altium\Datasheets\IRF9910Pbf.pdf; Author: CERN DEM JLC; CreateDate: 30/08/2010; LatestRevisionDate: 30/08/2010; Distributor1 PN: IRF9910PBFCT-ND; Distributor1: Digikey
footprint SOIC127P600X175-8N
part A pins: 3 S, 4 G, 5 D, 6 D
part B pins: 1 S, 2 G, 7 D, 8 D

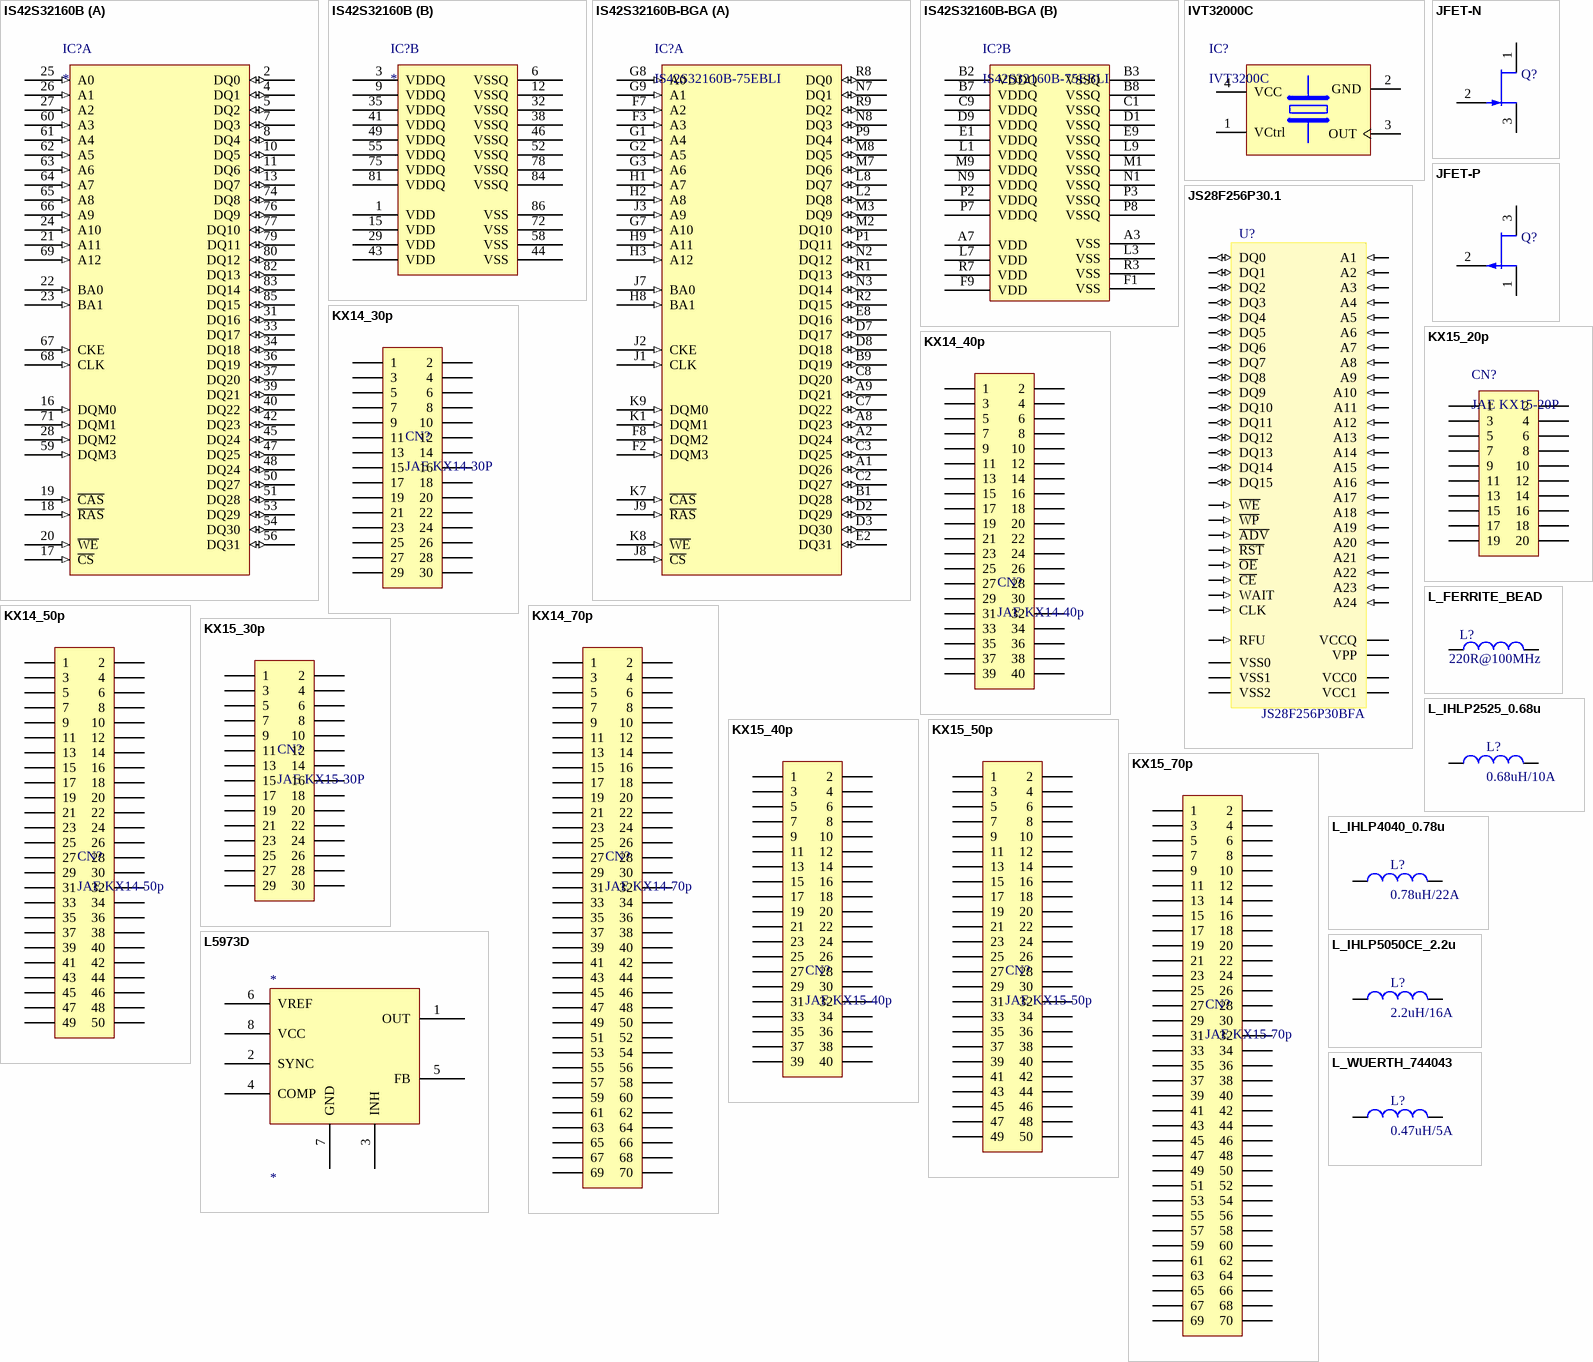
[diagram p17: symbols IS42S32160B to L_WUERTH_744043]

## IS42S32160B
designator IC?
SDRAM 512MBit (16Mx32) 143MHz
footprint TSOP86
part A pins: 2 DQ0 (io), 4 DQ1 (io), 5 DQ2 (io), 7 DQ3 (io), 8 DQ4 (io), 10 DQ5 (io), 11 DQ6 (io), 13 DQ7 (io), 16 DQM0 (in), 17 ~{CS} (in), 18 ~{RAS} (in), 19 ~{CAS} (in), 20 ~{WE} (in), 21 A11 (in), 22 BA0 (in), 23 BA1 (in), 24 A10 (in), 25 A0 (in), 26 A1 (in), 27 A2 (in), 28 DQM2 (in), 31 DQ16 (io), 33 DQ17 (io), 34 DQ18 (io), 36 DQ19 (io), 37 DQ20 (io), 39 DQ21 (io), 40 DQ22 (io), 42 DQ23 (io), 45 DQ24 (io), 47 DQ25 (io), 48 DQ24 (io), 50 DQ27 (io), 51 DQ28 (io), 53 DQ29 (io), 54 DQ30 (io), 56 DQ31 (io), 59 DQM3 (in), 60 A3 (in), 61 A4 (in), 62 A5 (in), 63 A6 (in), 64 A7 (in), 65 A8 (in), 66 A9 (in), 67 CKE (in), 68 CLK (in), 69 A12 (in), 71 DQM1 (in), 74 DQ8 (io), 76 DQ9 (io), 77 DQ10 (io), 79 DQ11 (io), 80 DQ12 (io), 82 DQ13 (io), 83 DQ14 (io), 85 DQ15 (io)
part B pins: 1 VDD (power), 3 VDDQ (power), 6 VSSQ (power), 9 VDDQ (power), 12 VSSQ (power), 15 VDD (power), 29 VDD (power), 32 VSSQ (power), 35 VDDQ (power), 38 VSSQ (power), 41 VDDQ (power), 43 VDD (power), 44 VSS (power), 46 VSSQ (power), 49 VDDQ (power), 52 VSSQ (power), 55 VDDQ (power), 58 VSS (power), 72 VSS (power), 75 VDDQ (power), 78 VSSQ (power), 81 VDDQ (power), 84 VSSQ (power), 86 VSS (power)